# Altium schematic symbol library Memory_RAM.SchLib: 96 symbols (part 1 of 2)
Pins are listed as number, name and electrical type; pins without a type are passive.

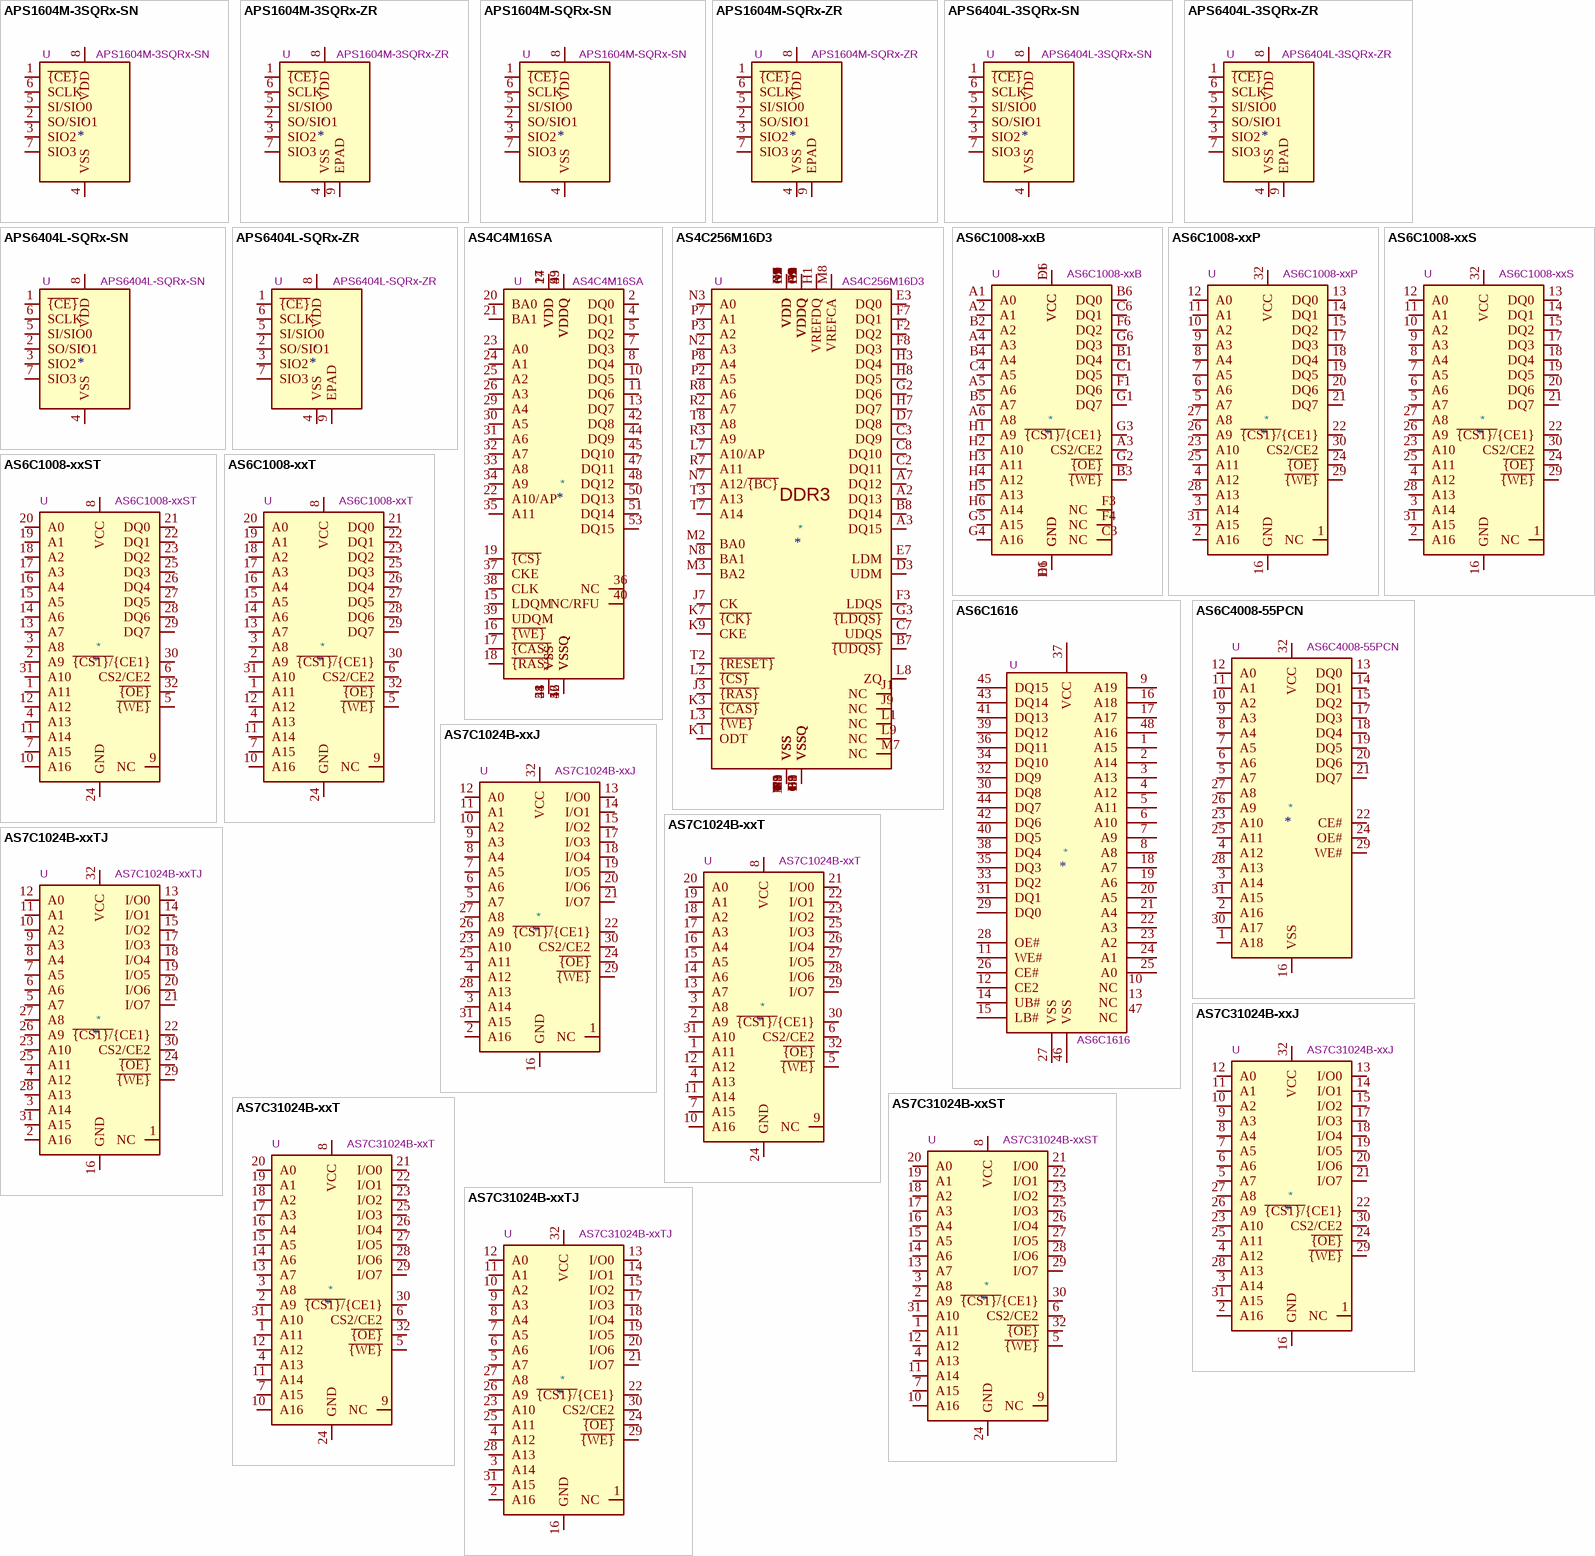
[diagram p0: symbols APS1604M-3SQRx-SN to AS7C31024B-xxTJ]

## APS1604M-3SQRx-SN
designator *  value APS1604M-3SQRx-SN  Reference: U
16 Mbit / 2M x 8-bits serial pseudo SRAM MEMORY, up to 133MHz, 2.7-3.6V supply, SOIC-8 (SOP-8); ki_keywords: qspi qpi spi psram; ki_fp_filters: *SOIC*3.9x4.9mm*P1.27mm*; Footprint: Package_SO:SOIC-8_3.9x4.9mm_P1.27mm; Datasheet: https://www.mouser.com/datasheet/2/1127/APM_PSRAM_QSPI_APS1604M_3SQR_v2_7_PKG-1954896.pdf; Description_: 16 Mbit / 2M x 8-bits serial pseudo SRAM MEMORY, up to 133MHz, 2.7-3.6V supply, SOIC-8 (SOP-8)
pins: 1 ~{{CE}}, 2 SO/SIO1, 3 SIO2, 4 VSS, 5 SI/SIO0, 6 SCLK, 7 SIO3, 8 VDD

## APS1604M-3SQRx-ZR
designator *  value APS1604M-3SQRx-ZR  Reference: U
16 Mbit / 2M x 8-bits serial pseudo SRAM MEMORY, up to 133MHz, 2.7-3.6V supply, USON-8 (XSON-8); ki_keywords: qspi qpi spi psram; ki_fp_filters: *SON*3x2mm*P0.5mm*EP0.2x1.6mm*; Footprint: Package_SON:Winbond_USON-8-1EP_3x2mm_P0.5mm_EP0.2x1.6mm; Datasheet: https://www.mouser.com/datasheet/2/1127/APM_PSRAM_QSPI_APS1604M_3SQR_v2_7_PKG-1954896.pdf; Description_: 16 Mbit / 2M x 8-bits serial pseudo SRAM MEMORY, up to 133MHz, 2.7-3.6V supply, USON-8 (XSON-8)
pins: 1 ~{{CE}}, 2 SO/SIO1, 3 SIO2, 4 VSS, 5 SI/SIO0, 6 SCLK, 7 SIO3, 8 VDD, 9 EPAD

## APS1604M-SQRx-SN
designator *  value APS1604M-SQRx-SN  Reference: U
16 Mbit / 2M x 8-bits serial pseudo SRAM MEMORY, up to 144MHz, 1.62-1.98V supply, SOIC-8 (SOP-8); ki_keywords: qspi qpi spi psram; ki_fp_filters: *SOIC*3.9x4.9mm*P1.27mm*; Footprint: Package_SO:SOIC-8_3.9x4.9mm_P1.27mm; Datasheet: https://www.mouser.com/datasheet/2/1127/APM_PSRAM_QSPI_APS1604M_SQR_v2_5_PKG-1954861.pdf; Description_: 16 Mbit / 2M x 8-bits serial pseudo SRAM MEMORY, up to 144MHz, 1.62-1.98V supply, SOIC-8 (SOP-8)
pins: 1 ~{{CE}}, 2 SO/SIO1, 3 SIO2, 4 VSS, 5 SI/SIO0, 6 SCLK, 7 SIO3, 8 VDD

## APS1604M-SQRx-ZR
designator *  value APS1604M-SQRx-ZR  Reference: U
16 Mbit / 2M x 8-bits serial pseudo SRAM MEMORY, up to 144MHz, 1.62-1.98V supply, USON-8 (XSON-8); ki_keywords: qspi qpi spi psram; ki_fp_filters: *SON*3x2mm*P0.5mm*EP0.2x1.6mm*; Footprint: Package_SON:Winbond_USON-8-1EP_3x2mm_P0.5mm_EP0.2x1.6mm; Datasheet: https://www.mouser.com/datasheet/2/1127/APM_PSRAM_QSPI_APS1604M_SQR_v2_5_PKG-1954861.pdf; Description_: 16 Mbit / 2M x 8-bits serial pseudo SRAM MEMORY, up to 144MHz, 1.62-1.98V supply, USON-8 (XSON-8)
pins: 1 ~{{CE}}, 2 SO/SIO1, 3 SIO2, 4 VSS, 5 SI/SIO0, 6 SCLK, 7 SIO3, 8 VDD, 9 EPAD

## APS6404L-3SQRx-SN
designator *  value APS6404L-3SQRx-SN  Reference: U
64 Mbit / 8M x 8-bits serial pseudo SRAM MEMORY, up to 133MHz, 2.7-3.6V supply, SOIC-8 (SOP-8); ki_keywords: qspi qpi spi psram; ki_fp_filters: *SOIC*3.9x4.9mm*P1.27mm*; Footprint: Package_SO:SOIC-8_3.9x4.9mm_P1.27mm; Datasheet: https://www.mouser.com/datasheet/2/1127/APM_PSRAM_QSPI_APS6404L_3SQR_v2_3_PKG-1954826.pdf; Description_: 64 Mbit / 8M x 8-bits serial pseudo SRAM MEMORY, up to 133MHz, 2.7-3.6V supply, SOIC-8 (SOP-8)
pins: 1 ~{{CE}}, 2 SO/SIO1, 3 SIO2, 4 VSS, 5 SI/SIO0, 6 SCLK, 7 SIO3, 8 VDD

## APS6404L-3SQRx-ZR
designator *  value APS6404L-3SQRx-ZR  Reference: U
64 Mbit / 8M x 8-bits serial pseudo SRAM MEMORY, up to 133MHz, 2.7-3.6V supply, USON-8 (XSON-8); ki_keywords: qspi qpi spi psram; ki_fp_filters: *SON*3x2mm*P0.5mm*EP0.2x1.6mm*; Footprint: Package_SON:Winbond_USON-8-1EP_3x2mm_P0.5mm_EP0.2x1.6mm; Datasheet: https://www.mouser.com/datasheet/2/1127/APM_PSRAM_QSPI_APS6404L_3SQR_v2_3_PKG-1954826.pdf; Description_: 64 Mbit / 8M x 8-bits serial pseudo SRAM MEMORY, up to 133MHz, 2.7-3.6V supply, USON-8 (XSON-8)
pins: 1 ~{{CE}}, 2 SO/SIO1, 3 SIO2, 4 VSS, 5 SI/SIO0, 6 SCLK, 7 SIO3, 8 VDD, 9 EPAD

## APS6404L-SQRx-SN
designator *  value APS6404L-SQRx-SN  Reference: U
64 Mbit / 8M x 8-bits serial pseudo SRAM MEMORY, up to 144MHz, 1.62-1.98V supply, SOIC-8 (SOP-8); ki_keywords: qspi qpi spi psram; ki_fp_filters: *SOIC*3.9x4.9mm*P1.27mm*; Footprint: Package_SO:SOIC-8_3.9x4.9mm_P1.27mm; Datasheet: https://www.apmemory.com/en/downloadFiles/0324112120mm608993; Description_: 64 Mbit / 8M x 8-bits serial pseudo SRAM MEMORY, up to 144MHz, 1.62-1.98V supply, SOIC-8 (SOP-8)
pins: 1 ~{{CE}}, 2 SO/SIO1, 3 SIO2, 4 VSS, 5 SI/SIO0, 6 SCLK, 7 SIO3, 8 VDD

## APS6404L-SQRx-ZR
designator *  value APS6404L-SQRx-ZR  Reference: U
64 Mbit / 8M x 8-bits serial pseudo SRAM MEMORY, up to 144MHz, 1.62-1.98V supply, USON-8 (XSON-8); ki_keywords: qspi qpi spi psram; ki_fp_filters: *SON*3x2mm*P0.5mm*EP0.2x1.6mm*; Footprint: Package_SON:Winbond_USON-8-1EP_3x2mm_P0.5mm_EP0.2x1.6mm; Datasheet: https://www.apmemory.com/en/downloadFiles/0324112120mm608993; Description_: 64 Mbit / 8M x 8-bits serial pseudo SRAM MEMORY, up to 144MHz, 1.62-1.98V supply, USON-8 (XSON-8)
pins: 1 ~{{CE}}, 2 SO/SIO1, 3 SIO2, 4 VSS, 5 SI/SIO0, 6 SCLK, 7 SIO3, 8 VDD, 9 EPAD

## AS4C4M16SA
designator *  value AS4C4M16SA  Reference: U
64M – (4M x 16 bit) Synchronous DRAM (SDRAM), TSOP-II-54; ki_keywords: SDRAM Synchronous DRAM PC166 PC143 64Mb 16Mbx4 MEMORY; ki_fp_filters: TSOP?II*22.2x10.16mm*P0.8mm*; Footprint: Package_SO:TSOP-II-54_22.2x10.16mm_P0.8mm; Datasheet: https://www.alliancememory.com/wp-content/uploads/pdf/dram/64M-AS4C4M16SA-CI_v3.0_March%202015.pdf; Description_: 64M – (4M x 16 bit) Synchronous DRAM (SDRAM), TSOP-II-54
pins: 1 VDD, 2 DQ0, 3 VDDQ, 4 DQ1, 5 DQ2, 6 VSSQ, 7 DQ3, 8 DQ4, 9 VDDQ, 10 DQ5, 11 DQ6, 12 VSSQ, 13 DQ7, 14 VDD, 15 LDQM, 16 ~{{WE}}, 17 ~{{CAS}}, 18 ~{{RAS}}, 19 ~{{CS}}, 20 BA0, 21 BA1, 22 A10/AP, 23 A0, 24 A1, 25 A2, 26 A3, 27 VDD, 28 VSS, 29 A4, 30 A5, 31 A6, 32 A7, 33 A8, 34 A9, 35 A11, 36 NC, 37 CKE, 38 CLK, 39 UDQM, 40 NC/RFU, 41 VSS, 42 DQ8, 43 VDDQ, 44 DQ9, 45 DQ10, 46 VSSQ, 47 DQ11, 48 DQ12, 49 VDDQ, 50 DQ13, 51 DQ14, 52 VSSQ, 53 DQ15, 54 VSS

## AS4C256M16D3
designator *  value AS4C256M16D3  Reference: U
4Gb (256Mx16 bit) Double Data Rate 3 Synchronous DRAM; ki_keywords: DDR3 DRAM MEMORY; ki_fp_filters: BGA*9.0x13.0mm*P0.8mm*; Footprint: Package_BGA:BGA-96_9.0x13.0mm_Layout2x3x16_P0.8mm; Datasheet: https://www.alliancememory.com/wp-content/uploads/pdf/ddr3/4GB-AS4C256M16D3.pdf; Description_: 4Gb (256Mx16 bit) Double Data Rate 3 Synchronous DRAM
pins: A1 VDDQ, A2 DQ13, A3 DQ15, A7 DQ12, A8 VDDQ, A9 VSS, B1 VSSQ, B2 VDD, B3 VSS, B7 ~{{UDQS}}, B8 DQ14, B9 VSSQ, C1 VDDQ, C2 DQ11, C3 DQ9, C7 UDQS, C8 DQ10, C9 VDDQ, D1 VSSQ, D2 VDDQ, D3 UDM, D7 DQ8, D8 VSSQ, D9 VDD, E1 VSS, E2 VSSQ, E3 DQ0, E7 LDM, E8 VSSQ, E9 VDDQ, F1 VDDQ, F2 DQ2, F3 LDQS, F7 DQ1, F8 DQ3, F9 VSSQ, G1 VSSQ, G2 DQ6, G3 ~{{LDQS}}, G7 VDD, G8 VSS, G9 VSSQ, H1 VREFDQ, H2 VDDQ, H3 DQ4, H7 DQ7, H8 DQ5, H9 VDDQ, J1 NC, J2 VSS, J3 ~{{RAS}}, J7 CK, J8 VSS, J9 NC, K1 ODT, K2 VDD, K3 ~{{CAS}}, K7 ~{{CK}}, K8 VDD, K9 CKE, L1 NC, L2 ~{{CS}}, L3 ~{{WE}}, L7 A10/AP, L8 ZQ, L9 NC, M1 VSS, M2 BA0, M3 BA2, M7 NC, M8 VREFCA, M9 VSS, N1 VDD, N2 A3, N3 A0, N7 A12/~{{BC}}, N8 BA1, N9 VDD, P1 VSS, P2 A5, P3 A2, P7 A1, P8 A4, P9 VSS, R1 VDD, R2 A7, R3 A9, R7 A11, R8 A6, R9 VDD, T1 VSS, T2 ~{{RESET}}, T3 A13, T7 A14, T8 A8, T9 VSS
text: DDR3

## AS6C1008-xxB
designator *  value AS6C1008-xxB  Reference: U
1-Mbit (128K X 8-bit) Low Power CMOS SRAM, single 2.7V ~ 5.5V power supply, 55ns, TFBGA-36; ki_keywords: Static MEMORY 1Mbit; ki_fp_filters: *TFBGA*6*8mm*Layout6x8*P0.75mm*; Footprint: Package_BGA:Alliance_TFBGA-36_6x8mm_Layout6x8_P0.75mm; Datasheet: https://www.alliancememory.com/wp-content/uploads/pdf/AS6C1008_Mar_2023V1.2.pdf; Description_: 1-Mbit (128K X 8-bit) Low Power CMOS SRAM, single 2.7V ~ 5.5V power supply, 55ns, TFBGA-36
pins: A1 A0, A2 A1, A3 CS2/CE2, A4 A3, A5 A6, A6 A8, B1 DQ4, B2 A2, B3 ~{{WE}}, B4 A4, B5 A7, B6 DQ0, C1 DQ5, C3 NC, C4 A5, C6 DQ1, D1 GND, D6 VCC, E1 VCC, E6 GND, F1 DQ6, F3 NC, F4 NC, F6 DQ2, G1 DQ7, G2 ~{{OE}}, G3 ~{{CS1}/}{CE1}, G4 A16, G5 A15, G6 DQ3, H1 A9, H2 A10, H3 A11, H4 A12, H5 A13, H6 A14

## AS6C1008-xxP
designator *  value AS6C1008-xxP  Reference: U
1-Mbit (128K X 8-bit) Low Power CMOS SRAM, single 2.7V ~ 5.5V power supply, 55ns, DIP-32; ki_keywords: Static MEMORY 1Mbit; ki_fp_filters: *DIP*W15.24mm*; Footprint: Package_DIP:DIP-32_W15.24mm; Datasheet: https://www.alliancememory.com/wp-content/uploads/pdf/AS6C1008_Mar_2023V1.2.pdf; Description_: 1-Mbit (128K X 8-bit) Low Power CMOS SRAM, single 2.7V ~ 5.5V power supply, 55ns, DIP-32
pins: 1 NC, 2 A16, 3 A14, 4 A12, 5 A7, 6 A6, 7 A5, 8 A4, 9 A3, 10 A2, 11 A1, 12 A0, 13 DQ0, 14 DQ1, 15 DQ2, 16 GND, 17 DQ3, 18 DQ4, 19 DQ5, 20 DQ6, 21 DQ7, 22 ~{{CS1}/}{CE1}, 23 A10, 24 ~{{OE}}, 25 A11, 26 A9, 27 A8, 28 A13, 29 ~{{WE}}, 30 CS2/CE2, 31 A15, 32 VCC

## AS6C1008-xxS
designator *  value AS6C1008-xxS  Reference: U
1-Mbit (128K X 8-bit) Low Power CMOS SRAM, single 2.7V ~ 5.5V power supply, 55ns, SOP-32; ki_keywords: Static MEMORY 1Mbit; ki_fp_filters: *SOP*11.3*20.*P1.27mm*; Footprint: Package_SO:SOP-32_11.305x20.495mm_P1.27mm; Datasheet: https://www.alliancememory.com/wp-content/uploads/pdf/AS6C1008_Mar_2023V1.2.pdf; Description_: 1-Mbit (128K X 8-bit) Low Power CMOS SRAM, single 2.7V ~ 5.5V power supply, 55ns, SOP-32
pins: 1 NC, 2 A16, 3 A14, 4 A12, 5 A7, 6 A6, 7 A5, 8 A4, 9 A3, 10 A2, 11 A1, 12 A0, 13 DQ0, 14 DQ1, 15 DQ2, 16 GND, 17 DQ3, 18 DQ4, 19 DQ5, 20 DQ6, 21 DQ7, 22 ~{{CS1}/}{CE1}, 23 A10, 24 ~{{OE}}, 25 A11, 26 A9, 27 A8, 28 A13, 29 ~{{WE}}, 30 CS2/CE2, 31 A15, 32 VCC

## AS6C1008-xxST
designator *  value AS6C1008-xxST  Reference: U
1-Mbit (128K X 8-bit) Low Power CMOS SRAM, single 2.7V ~ 5.5V power supply, 55ns, TSOP-I-32; ki_keywords: Static MEMORY 1Mbit; ki_fp_filters: *TSOP?I*11.8*8*P0.5mm*; Footprint: Package_SO:TSOP-I-32_11.8x8mm_P0.5mm; Datasheet: https://www.alliancememory.com/wp-content/uploads/pdf/AS6C1008_Mar_2023V1.2.pdf; Description_: 1-Mbit (128K X 8-bit) Low Power CMOS SRAM, single 2.7V ~ 5.5V power supply, 55ns, TSOP-I-32
pins: 1 A11, 2 A9, 3 A8, 4 A13, 5 ~{{WE}}, 6 CS2/CE2, 7 A15, 8 VCC, 9 NC, 10 A16, 11 A14, 12 A12, 13 A7, 14 A6, 15 A5, 16 A4, 17 A3, 18 A2, 19 A1, 20 A0, 21 DQ0, 22 DQ1, 23 DQ2, 24 GND, 25 DQ3, 26 DQ4, 27 DQ5, 28 DQ6, 29 DQ7, 30 ~{{CS1}/}{CE1}, 31 A10, 32 ~{{OE}}

## AS6C1008-xxT
designator *  value AS6C1008-xxT  Reference: U
1-Mbit (128K X 8-bit) Low Power CMOS SRAM, single 2.7V ~ 5.5V power supply, 55ns, TSOP-I-32; ki_keywords: Static MEMORY 1Mbit; ki_fp_filters: *TSOP?I*18.4*8*P0.5mm*; Footprint: Package_SO:TSOP-I-32_18.4x8mm_P0.5mm; Datasheet: https://www.alliancememory.com/wp-content/uploads/pdf/AS6C1008_Mar_2023V1.2.pdf; Description_: 1-Mbit (128K X 8-bit) Low Power CMOS SRAM, single 2.7V ~ 5.5V power supply, 55ns, TSOP-I-32
pins: 1 A11, 2 A9, 3 A8, 4 A13, 5 ~{{WE}}, 6 CS2/CE2, 7 A15, 8 VCC, 9 NC, 10 A16, 11 A14, 12 A12, 13 A7, 14 A6, 15 A5, 16 A4, 17 A3, 18 A2, 19 A1, 20 A0, 21 DQ0, 22 DQ1, 23 DQ2, 24 GND, 25 DQ3, 26 DQ4, 27 DQ5, 28 DQ6, 29 DQ7, 30 ~{{CS1}/}{CE1}, 31 A10, 32 ~{{OE}}

## AS6C1616
designator *  value AS6C1616  Reference: U
1024k x 16 bit low power CMOS SRAM; ki_keywords: memory SRAM; ki_fp_filters: TSOP?I*18.4x12mm*P0.5mm*; Footprint: Package_SO:TSOP-I-48_18.4x12mm_P0.5mm; Datasheet: https://www.alliancememory.com/wp-content/uploads/pdf/AS6C1616-TSOPI.pdf; Description_: 1024k x 16 bit low power CMOS SRAM
pins: 1 A15, 2 A14, 3 A13, 4 A12, 5 A11, 6 A10, 7 A9, 8 A8, 9 A19, 10 NC, 11 WE#, 12 CE2, 13 NC, 14 UB#, 15 LB#, 16 A18, 17 A17, 18 A7, 19 A6, 20 A5, 21 A4, 22 A3, 23 A2, 24 A1, 25 A0, 26 CE#, 27 VSS, 28 OE#, 29 DQ0, 30 DQ8, 31 DQ1, 32 DQ9, 33 DQ2, 34 DQ10, 35 DQ3, 36 DQ11, 37 VCC, 38 DQ4, 39 DQ12, 40 DQ5, 41 DQ13, 42 DQ6, 43 DQ14, 44 DQ7, 45 DQ15, 46 VSS, 47 NC, 48 A16

## AS6C4008-55PCN
designator *  value AS6C4008-55PCN  Reference: U
512K x 8 Low Power CMOS RAM, DIP-32; ki_keywords: RAM SRAM CMOS MEMORY; ki_fp_filters: DIP*W15.24mm*; Footprint: Package_DIP:DIP-32_W15.24mm; Datasheet: https://www.alliancememory.com/wp-content/uploads/pdf/AS6C4008.pdf; Description_: 512K x 8 Low Power CMOS RAM, DIP-32
pins: 1 A18, 2 A16, 3 A14, 4 A12, 5 A7, 6 A6, 7 A5, 8 A4, 9 A3, 10 A2, 11 A1, 12 A0, 13 DQ0, 14 DQ1, 15 DQ2, 16 VSS, 17 DQ3, 18 DQ4, 19 DQ5, 20 DQ6, 21 DQ7, 22 CE#, 23 A10, 24 OE#, 25 A11, 26 A9, 27 A8, 28 A13, 29 WE#, 30 A17, 31 A15, 32 VCC

## AS7C1024B-xxJ
designator *  value AS7C1024B-xxJ  Reference: U
5V 1-Mbit (128K x 8-bit) FAST Asynchronous SRAM, 10/12/15/20ns, SOJ-32 (400 mil); ki_keywords: CMOS MEMORY Static 1Mbit; ki_fp_filters: *SOJ*10.1*20.*P1.27mm*; Footprint: Package_SO:SOJ-32_10.16x20.955mm_P1.27mm; Datasheet: https://www.alliancememory.com/wp-content/uploads/pdf/sram/fa/AS7C1024B_March2022_v3.0.pdf; Description_: 5V 1-Mbit (128K x 8-bit) FAST Asynchronous SRAM, 10/12/15/20ns, SOJ-32 (400 mil)
pins: 1 NC, 2 A16, 3 A14, 4 A12, 5 A7, 6 A6, 7 A5, 8 A4, 9 A3, 10 A2, 11 A1, 12 A0, 13 I/O0, 14 I/O1, 15 I/O2, 16 GND, 17 I/O3, 18 I/O4, 19 I/O5, 20 I/O6, 21 I/O7, 22 ~{{CS1}/}{CE1}, 23 A10, 24 ~{{OE}}, 25 A11, 26 A9, 27 A8, 28 A13, 29 ~{{WE}}, 30 CS2/CE2, 31 A15, 32 VCC

## AS7C1024B-xxT
designator *  value AS7C1024B-xxT  Reference: U
5V 1-Mbit (128K x 8-bit) FAST Asynchronous SRAM, 10/12/15/20ns, TSOP-I-32; ki_keywords: CMOS MEMORY Static 1Mbit; ki_fp_filters: *TSOP?I*18.4*8*P0.5mm*; Footprint: Package_SO:TSOP-I-32_18.4x8mm_P0.5mm; Datasheet: https://www.alliancememory.com/wp-content/uploads/pdf/sram/fa/AS7C1024B_March2022_v3.0.pdf; Description_: 5V 1-Mbit (128K x 8-bit) FAST Asynchronous SRAM, 10/12/15/20ns, TSOP-I-32
pins: 1 A11, 2 A9, 3 A8, 4 A13, 5 ~{{WE}}, 6 CS2/CE2, 7 A15, 8 VCC, 9 NC, 10 A16, 11 A14, 12 A12, 13 A7, 14 A6, 15 A5, 16 A4, 17 A3, 18 A2, 19 A1, 20 A0, 21 I/O0, 22 I/O1, 23 I/O2, 24 GND, 25 I/O3, 26 I/O4, 27 I/O5, 28 I/O6, 29 I/O7, 30 ~{{CS1}/}{CE1}, 31 A10, 32 ~{{OE}}

## AS7C1024B-xxTJ
designator *  value AS7C1024B-xxTJ  Reference: U
5V 1-Mbit (128K x 8-bit) FAST Asynchronous SRAM, 10/12/15/20ns, SOJ-32 (300 mil); ki_keywords: CMOS MEMORY Static 1Mbit; ki_fp_filters: *SOJ*7.6*20.*P1.27mm*; Footprint: Package_SO:SOJ-32_7.62x20.955mm_P1.27mm; Datasheet: https://www.alliancememory.com/wp-content/uploads/pdf/sram/fa/AS7C1024B_March2022_v3.0.pdf; Description_: 5V 1-Mbit (128K x 8-bit) FAST Asynchronous SRAM, 10/12/15/20ns, SOJ-32 (300 mil)
pins: 1 NC, 2 A16, 3 A14, 4 A12, 5 A7, 6 A6, 7 A5, 8 A4, 9 A3, 10 A2, 11 A1, 12 A0, 13 I/O0, 14 I/O1, 15 I/O2, 16 GND, 17 I/O3, 18 I/O4, 19 I/O5, 20 I/O6, 21 I/O7, 22 ~{{CS1}/}{CE1}, 23 A10, 24 ~{{OE}}, 25 A11, 26 A9, 27 A8, 28 A13, 29 ~{{WE}}, 30 CS2/CE2, 31 A15, 32 VCC

## AS7C31024B-xxJ
designator *  value AS7C31024B-xxJ  Reference: U
3.3V 1-Mbit (128K X 8-bit) CMOS SRAM, 10/12/15/20ns, SOJ-32 (400 mil); ki_keywords: Static MEMORY 1Mbit; ki_fp_filters: *SOJ*10.1*20.*P1.27mm*; Footprint: Package_SO:SOJ-32_10.16x20.955mm_P1.27mm; Datasheet: https://www.alliancememory.com/wp-content/uploads/pdf/sram/fa/AS7C31024B.V1.2.pdf; Description_: 3.3V 1-Mbit (128K X 8-bit) CMOS SRAM, 10/12/15/20ns, SOJ-32 (400 mil)
pins: 1 NC, 2 A16, 3 A14, 4 A12, 5 A7, 6 A6, 7 A5, 8 A4, 9 A3, 10 A2, 11 A1, 12 A0, 13 I/O0, 14 I/O1, 15 I/O2, 16 GND, 17 I/O3, 18 I/O4, 19 I/O5, 20 I/O6, 21 I/O7, 22 ~{{CS1}/}{CE1}, 23 A10, 24 ~{{OE}}, 25 A11, 26 A9, 27 A8, 28 A13, 29 ~{{WE}}, 30 CS2/CE2, 31 A15, 32 VCC

## AS7C31024B-xxST
designator *  value AS7C31024B-xxST  Reference: U
3.3V 1-Mbit (128K X 8-bit) CMOS SRAM, 10/12/15/20ns, TSOP-I-32; ki_keywords: MEMORY Static 1Mbit; ki_fp_filters: *TSOP?I*11.8*8*P0.5mm*; Footprint: Package_SO:TSOP-I-32_11.8x8mm_P0.5mm; Datasheet: https://www.alliancememory.com/wp-content/uploads/pdf/sram/fa/AS7C31024B.V1.2.pdf; Description_: 3.3V 1-Mbit (128K X 8-bit) CMOS SRAM, 10/12/15/20ns, TSOP-I-32
pins: 1 A11, 2 A9, 3 A8, 4 A13, 5 ~{{WE}}, 6 CS2/CE2, 7 A15, 8 VCC, 9 NC, 10 A16, 11 A14, 12 A12, 13 A7, 14 A6, 15 A5, 16 A4, 17 A3, 18 A2, 19 A1, 20 A0, 21 I/O0, 22 I/O1, 23 I/O2, 24 GND, 25 I/O3, 26 I/O4, 27 I/O5, 28 I/O6, 29 I/O7, 30 ~{{CS1}/}{CE1}, 31 A10, 32 ~{{OE}}

## AS7C31024B-xxT
designator *  value AS7C31024B-xxT  Reference: U
3.3V 1-Mbit (128K X 8-bit) CMOS SRAM, 10/12/15/20ns, TSOP-I-32; ki_keywords: MEMORY Static 1Mbit; ki_fp_filters: *TSOP?I*18.4*8*P0.5mm*; Footprint: Package_SO:TSOP-I-32_18.4x8mm_P0.5mm; Datasheet: https://www.alliancememory.com/wp-content/uploads/pdf/sram/fa/AS7C31024B.V1.2.pdf; Description_: 3.3V 1-Mbit (128K X 8-bit) CMOS SRAM, 10/12/15/20ns, TSOP-I-32
pins: 1 A11, 2 A9, 3 A8, 4 A13, 5 ~{{WE}}, 6 CS2/CE2, 7 A15, 8 VCC, 9 NC, 10 A16, 11 A14, 12 A12, 13 A7, 14 A6, 15 A5, 16 A4, 17 A3, 18 A2, 19 A1, 20 A0, 21 I/O0, 22 I/O1, 23 I/O2, 24 GND, 25 I/O3, 26 I/O4, 27 I/O5, 28 I/O6, 29 I/O7, 30 ~{{CS1}/}{CE1}, 31 A10, 32 ~{{OE}}

## AS7C31024B-xxTJ
designator *  value AS7C31024B-xxTJ  Reference: U
3.3V 1-Mbit (128K X 8-bit) CMOS SRAM, 10/12/15/20ns, SOJ-32 (300 mil); ki_keywords: Static MEMORY 1Mbit; ki_fp_filters: *SOJ*7.6*20.*P1.27mm*; Footprint: Package_SO:SOJ-32_7.62x20.955mm_P1.27mm; Datasheet: https://www.alliancememory.com/wp-content/uploads/pdf/sram/fa/AS7C31024B.V1.2.pdf; Description_: 3.3V 1-Mbit (128K X 8-bit) CMOS SRAM, 10/12/15/20ns, SOJ-32 (300 mil)
pins: 1 NC, 2 A16, 3 A14, 4 A12, 5 A7, 6 A6, 7 A5, 8 A4, 9 A3, 10 A2, 11 A1, 12 A0, 13 I/O0, 14 I/O1, 15 I/O2, 16 GND, 17 I/O3, 18 I/O4, 19 I/O5, 20 I/O6, 21 I/O7, 22 ~{{CS1}/}{CE1}, 23 A10, 24 ~{{OE}}, 25 A11, 26 A9, 27 A8, 28 A13, 29 ~{{WE}}, 30 CS2/CE2, 31 A15, 32 VCC

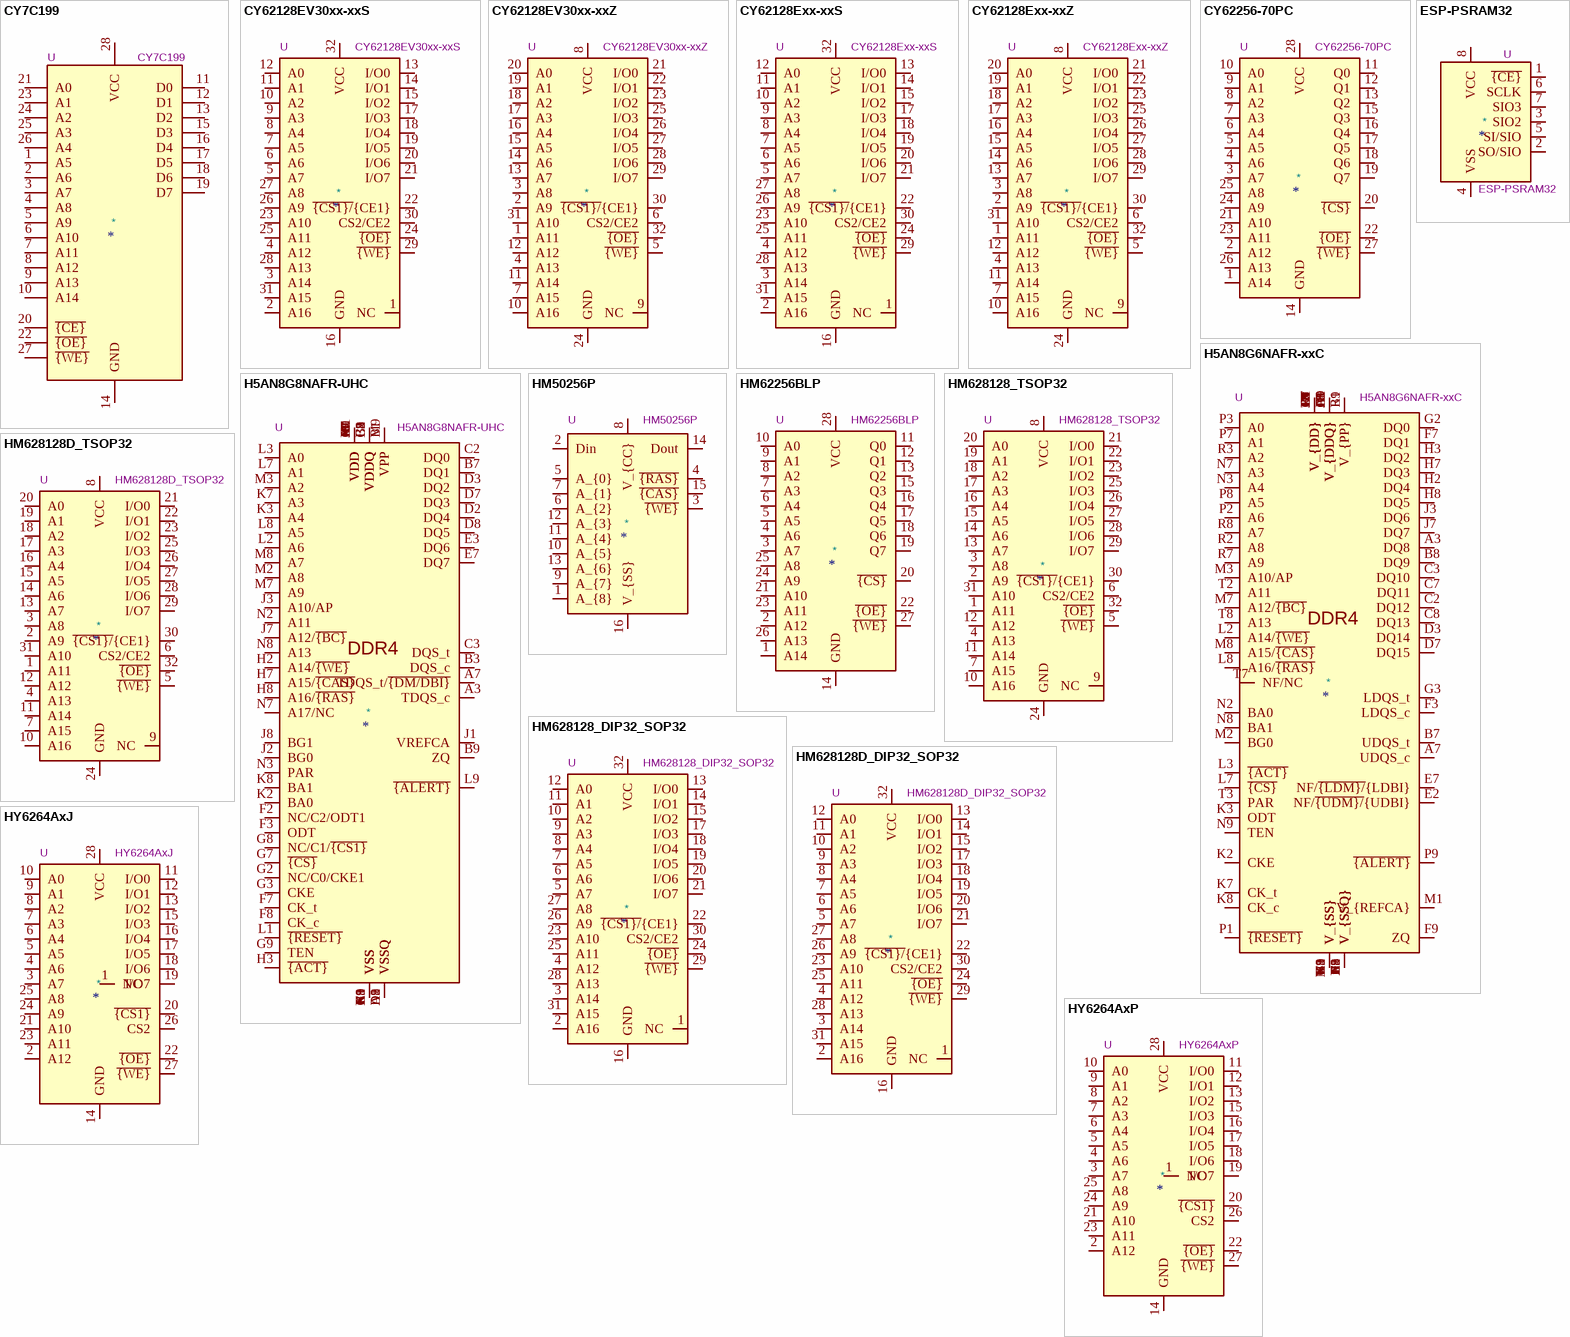
[diagram p1: symbols CY7C199 to HY6264AxP]

## CY7C199
designator *  value CY7C199  Reference: U
pins: 1 A5, 2 A6, 3 A7, 4 A8, 5 A9, 6 A10, 7 A11, 8 A12, 9 A13, 10 A14, 11 D0, 12 D1, 13 D2, 14 GND, 15 D3, 16 D4, 17 D5, 18 D6, 19 D7, 20 ~{{CE}}, 21 A0, 22 ~{{OE}}, 23 A1, 24 A2, 25 A3, 26 A4, 27 ~{{WE}}, 28 VCC

## CY62128EV30xx-xxS
designator *  value CY62128EV30xx-xxS  Reference: U
1-Mbit (128K x 8-bit) Static RAM, VCC = 2.2..3.6V, 45ns, SOIC-32 (SOP-32); ki_keywords: CMOS MEMORY SRAM 1Mbit; ki_fp_filters: *SOP*11.*20.*P1.27mm*; Footprint: Package_SO:SOP-32_11.305x20.495mm_P1.27mm; Datasheet: https://www.infineon.com/dgdl/Infineon-CY62128EV30_MoBL_1_Mbit_(128K_X_8)_Static_RAM-DataSheet-v17_00-EN.pdf?fileId=8ac78c8c7d0d8da4017d0ebe867f322f; Description_: 1-Mbit (128K x 8-bit) Static RAM, VCC = 2.2..3.6V, 45ns, SOIC-32 (SOP-32)
pins: 1 NC, 2 A16, 3 A14, 4 A12, 5 A7, 6 A6, 7 A5, 8 A4, 9 A3, 10 A2, 11 A1, 12 A0, 13 I/O0, 14 I/O1, 15 I/O2, 16 GND, 17 I/O3, 18 I/O4, 19 I/O5, 20 I/O6, 21 I/O7, 22 ~{{CS1}/}{CE1}, 23 A10, 24 ~{{OE}}, 25 A11, 26 A9, 27 A8, 28 A13, 29 ~{{WE}}, 30 CS2/CE2, 31 A15, 32 VCC

## CY62128EV30xx-xxZ
designator *  value CY62128EV30xx-xxZ  Reference: U
1-Mbit (128K x 8-bit) Static RAM, VCC = 2.2..3.6V, 45ns, TSOP-I-32; ki_keywords: CMOS MEMORY SRAM 1Mbit; ki_fp_filters: *TSOP?I*18.4*8*P0.5mm*; Footprint: Package_SO:TSOP-I-32_18.4x8mm_P0.5mm; Datasheet: https://www.infineon.com/dgdl/Infineon-CY62128EV30_MoBL_1_Mbit_(128K_X_8)_Static_RAM-DataSheet-v17_00-EN.pdf?fileId=8ac78c8c7d0d8da4017d0ebe867f322f; Description_: 1-Mbit (128K x 8-bit) Static RAM, VCC = 2.2..3.6V, 45ns, TSOP-I-32
pins: 1 A11, 2 A9, 3 A8, 4 A13, 5 ~{{WE}}, 6 CS2/CE2, 7 A15, 8 VCC, 9 NC, 10 A16, 11 A14, 12 A12, 13 A7, 14 A6, 15 A5, 16 A4, 17 A3, 18 A2, 19 A1, 20 A0, 21 I/O0, 22 I/O1, 23 I/O2, 24 GND, 25 I/O3, 26 I/O4, 27 I/O5, 28 I/O6, 29 I/O7, 30 ~{{CS1}/}{CE1}, 31 A10, 32 ~{{OE}}

## CY62128Exx-xxS
designator *  value CY62128Exx-xxS  Reference: U
1-Mbit (128K x 8-bit) Static RAM, VCC = 4.5..5.5V, 45/55ns, SOIC-32 (SOP-32); ki_keywords: CMOS MEMORY SRAM 1Mbit; ki_fp_filters: *SOP*11.*20.*P1.27mm*; Footprint: Package_SO:SOP-32_11.305x20.495mm_P1.27mm; Datasheet: https://www.infineon.com/dgdl/Infineon-CY62128E_MoBL_1-Mbit_(128_K_8)_Static_RAM-DataSheet-v17_00-EN.pdf?fileId=8ac78c8c7d0d8da4017d0ebe7dc7321d; Description_: 1-Mbit (128K x 8-bit) Static RAM, VCC = 4.5..5.5V, 45/55ns, SOIC-32 (SOP-32)
pins: 1 NC, 2 A16, 3 A14, 4 A12, 5 A7, 6 A6, 7 A5, 8 A4, 9 A3, 10 A2, 11 A1, 12 A0, 13 I/O0, 14 I/O1, 15 I/O2, 16 GND, 17 I/O3, 18 I/O4, 19 I/O5, 20 I/O6, 21 I/O7, 22 ~{{CS1}/}{CE1}, 23 A10, 24 ~{{OE}}, 25 A11, 26 A9, 27 A8, 28 A13, 29 ~{{WE}}, 30 CS2/CE2, 31 A15, 32 VCC

## CY62128Exx-xxZ
designator *  value CY62128Exx-xxZ  Reference: U
1-Mbit (128K x 8-bit) Static RAM, VCC = 4.5..5.5V, 45/55ns, TSOP-I-32; ki_keywords: CMOS MEMORY SRAM 1Mbit; ki_fp_filters: *TSOP?I*18.4*8*P0.5mm*; Footprint: Package_SO:TSOP-I-32_18.4x8mm_P0.5mm; Datasheet: https://www.infineon.com/dgdl/Infineon-CY62128E_MoBL_1-Mbit_(128_K_8)_Static_RAM-DataSheet-v17_00-EN.pdf?fileId=8ac78c8c7d0d8da4017d0ebe7dc7321d; Description_: 1-Mbit (128K x 8-bit) Static RAM, VCC = 4.5..5.5V, 45/55ns, TSOP-I-32
pins: 1 A11, 2 A9, 3 A8, 4 A13, 5 ~{{WE}}, 6 CS2/CE2, 7 A15, 8 VCC, 9 NC, 10 A16, 11 A14, 12 A12, 13 A7, 14 A6, 15 A5, 16 A4, 17 A3, 18 A2, 19 A1, 20 A0, 21 I/O0, 22 I/O1, 23 I/O2, 24 GND, 25 I/O3, 26 I/O4, 27 I/O5, 28 I/O6, 29 I/O7, 30 ~{{CS1}/}{CE1}, 31 A10, 32 ~{{OE}}

## CY62256-70PC
designator *  value CY62256-70PC  Reference: U
256K (32K x 8) Static RAM, 70ns, DIP-28; ki_keywords: RAM SRAM CMOS MEMORY; ki_fp_filters: DIP*W15.24mm*; Footprint: Package_DIP:DIP-28_W15.24mm; Datasheet: https://ecee.colorado.edu/~mcclurel/Cypress_SRAM_CY62256.pdf; Description_: 256K (32K x 8) Static RAM, 70ns, DIP-28
pins: 1 A14, 2 A12, 3 A7, 4 A6, 5 A5, 6 A4, 7 A3, 8 A2, 9 A1, 10 A0, 11 Q0, 12 Q1, 13 Q2, 14 GND, 15 Q3, 16 Q4, 17 Q5, 18 Q6, 19 Q7, 20 ~{{CS}}, 21 A10, 22 ~{{OE}}, 23 A11, 24 A9, 25 A8, 26 A13, 27 ~{{WE}}, 28 VCC

## ESP-PSRAM32
designator *  value ESP-PSRAM32  Reference: U
32 Mbit serial pseudo SRAM device organized as 4Mx8 bits, 1.8 VCC, SOIC8 (SOP8); ki_keywords: 32 Mbit serial pseudo SRAM MEMORY; ki_fp_filters: SOIC*3.9x4.9mm?P1.27mm*; Footprint: Package_SO:SOIC-8_3.9x4.9mm_P1.27mm; Datasheet: https://www.espressif.com/sites/default/files/documentation/esp-psram32_datasheet_en.pdf; Description_: 32 Mbit serial pseudo SRAM device organized as 4Mx8 bits, 1.8 VCC, SOIC8 (SOP8)
pins: 1 ~{{CE}}, 2 SO/SIO, 3 SIO2, 4 VSS, 5 SI/SIO, 6 SCLK, 7 SIO3, 8 VCC

## H5AN8G6NAFR-xxC
designator *  value H5AN8G6NAFR-xxC  Reference: U
512M x 16-bit (8 Gbit) CMOS Double Data Rate IV Synchronous RAM, FBGA-96; ki_keywords: DDR4 DRAM SDRAM x16 MEMORY; ki_fp_filters: *FBGA*7.5x13mm*Layout9x16*P0.8mm*; Footprint: Package_BGA:FBGA-96_7.5x13mm_Layout9x16_P0.8mm; Datasheet: https://www.lcsc.com/datasheet/lcsc_datasheet_2003241832_SK-HYNIX-H5AN8G6NAFR-UHC_C499916.pdf; Description_: 512M x 16-bit (8 Gbit) CMOS Double Data Rate IV Synchronous RAM, FBGA-96
pins: A1 V_{DDQ}, A2 V_{SSQ}, A3 DQ8, A7 UDQS_c, A8 V_{SSQ}, A9 V_{DDQ}, B1 V_{PP}, B2 V_{SS}, B3 V_{DD}, B7 UDQS_t, B8 DQ9, B9 V_{DD}, C1 V_{DDQ}, C2 DQ12, C3 DQ10, C7 DQ11, C8 DQ13, C9 V_{SSQ}, D1 V_{DD}, D2 V_{SSQ}, D3 DQ14, D7 DQ15, D8 V_{SSQ}, D9 V_{DDQ}, E1 V_{SS}, E2 NF/~{{UDM}/}{UDBI}, E3 V_{SSQ}, E7 NF/~{{LDM}/}{LDBI}, E8 V_{SSQ}, E9 V_{SS}, F1 V_{SSQ}, F2 V_{DDQ}, F3 LDQS_c, F7 DQ1, F8 V_{DDQ}, F9 ZQ, G1 V_{DDQ}, G2 DQ0, G3 LDQS_t, G7 V_{DD}, G8 V_{SS}, G9 V_{DDQ}, H1 V_{SSQ}, H2 DQ4, H3 DQ2, H7 DQ3, H8 DQ5, H9 V_{SSQ}, J1 V_{DD}, J2 V_{DDQ}, J3 DQ6, J7 DQ7, J8 V_{DDQ}, J9 V_{DD}, K1 V_{SS}, K2 CKE, K3 ODT, K7 CK_t, K8 CK_c, K9 V_{SS}, L1 V_{DD}, L2 A14/~{{WE}}, L3 ~{{ACT}}, L7 ~{{CS}}, L8 A16/~{{RAS}}, L9 V_{DD}, M1 V_{REFCA}, M2 BG0, M3 A10/AP, M7 A12/~{{BC}}, M8 A15/~{{CAS}}, M9 V_{SS}, N1 V_{SS}, N2 BA0, N3 A4, N7 A3, N8 BA1, N9 TEN, P1 ~{{RESET}}, P2 A6, P3 A0, P7 A1, P8 A5, P9 ~{{ALERT}}, R1 V_{DD}, R2 A8, R3 A2, R7 A9, R8 A7, R9 V_{PP}, T1 V_{SS}, T2 A11, T3 PAR, T7 NF/NC, T8 A13, T9 V_{DD}
text: DDR4

## H5AN8G8NAFR-UHC
designator *  value H5AN8G8NAFR-UHC  Reference: U
8Gb CMOS Double Data Rate IV Synchronous RAM; ki_keywords: DDR4 DRAM MEMORY; ki_fp_filters: FBGA*7.5x11mm*P0.8mm*; Footprint: Package_BGA:FBGA-78_7.5x11mm_Layout2x3x13_P0.8mm; Datasheet: https://www.skhynix.com/product/filedata/fileDownload.do?seq=7687; Description_: 8Gb CMOS Double Data Rate IV Synchronous RAM
pins: A1 VDD, A2 VSSQ, A3 TDQS_c, A7 TDQS_t/~{{DM/DBI}}, A8 VSSQ, A9 VSS, B1 VPP, B2 VDDQ, B3 DQS_c, B7 DQ1, B8 VDDQ, B9 ZQ, C1 VDDQ, C2 DQ0, C3 DQS_t, C7 VDD, C8 VSS, C9 VDDQ, D1 VSSQ, D2 DQ4, D3 DQ2, D7 DQ3, D8 DQ5, D9 VSSQ, E1 VSS, E2 VDDQ, E3 DQ6, E7 DQ7, E8 VDDQ, E9 VSS, F1 VDD, F2 NC/C2/ODT1, F3 ODT, F7 CK_t, F8 CK_c, F9 VDD, G1 VSS, G2 NC/C0/CKE1, G3 CKE, G7 ~{{CS}}, G8 NC/C1/~{{CS1}}, G9 TEN, H1 VDD, H2 A14/~{{WE}}, H3 ~{{ACT}}, H7 A15/~{{CAS}}, H8 A16/~{{RAS}}, H9 VSS, J1 VREFCA, J2 BG0, J3 A10/AP, J7 A12/~{{BC}}, J8 BG1, J9 VDD, K1 VSS, K2 BA0, K3 A4, K7 A3, K8 BA1, K9 VSS, L1 ~{{RESET}}, L2 A6, L3 A0, L7 A1, L8 A5, L9 ~{{ALERT}}, M1 VDD, M2 A8, M3 A2, M7 A9, M8 A7, M9 VPP, N1 VSS, N2 A11, N3 PAR, N7 A17/NC, N8 A13, N9 VDD
text: DDR4

## HM50256P
designator *  value HM50256P  Reference: U
262144 x 1 bit Dynamic RAM, 120/150/200ns access time, single 5V ±10% power supply, TTL compatible inputs, DIP-16 (DP-16A package); ki_keywords: Hitachi DRAM NMOS 256Kbit 41256 MEMORY Obsolete; ki_fp_filters: DIP*7.62mm*; Footprint: Package_DIP:DIP-16_W7.62mm; Datasheet: https://minuszerodegrees.net/memory/41256/datasheet_HM50256.pdf; Description_: 262144 x 1 bit Dynamic RAM, 120/150/200ns access time, single 5V ±10% power supply, TTL compatible inputs, DIP-16 (DP-16A package)
pins: 1 A_{8}, 2 Din, 3 ~{{WE}}, 4 ~{{RAS}}, 5 A_{0}, 6 A_{2}, 7 A_{1}, 8 V_{CC}, 9 A_{7}, 10 A_{5}, 11 A_{4}, 12 A_{3}, 13 A_{6}, 14 Dout, 15 ~{{CAS}}, 16 V_{SS}

## HM62256BLP
designator *  value HM62256BLP  Reference: U
32,768-word × 8-bit High Speed CMOS Static RAM, 70ns, DIP-28; ki_keywords: RAM SRAM CMOS MEMORY; ki_fp_filters: DIP*W15.24mm*; Footprint: Package_DIP:DIP-28_W15.24mm; Datasheet: https://web.mit.edu/6.115/www/document/62256.pdf; Description_: 32,768-word × 8-bit High Speed CMOS Static RAM, 70ns, DIP-28
pins: 1 A14, 2 A12, 3 A7, 4 A6, 5 A5, 6 A4, 7 A3, 8 A2, 9 A1, 10 A0, 11 Q0, 12 Q1, 13 Q2, 14 GND, 15 Q3, 16 Q4, 17 Q5, 18 Q6, 19 Q7, 20 ~{{CS}}, 21 A10, 22 ~{{OE}}, 23 A11, 24 A9, 25 A8, 26 A13, 27 ~{{WE}}, 28 VCC

## HM628128_DIP32_SOP32
designator *  value HM628128_DIP32_SOP32  Reference: U
128K-word x 8-bit High-Speed CMOS Static RAM, 70/85/100/120ns, 5V supply, DIP-32/SOP-32; ki_keywords: SRAM MEMORY 1Mbit Obsolete; ki_fp_filters: *DIP*W15.24mm* *SOP*11.*20.*P1.27mm*; Datasheet: https://www.silicon-ark.co.uk/datasheets/hm628128-datasheet-hitachi.pdf; Description_: 128K-word x 8-bit High-Speed CMOS Static RAM, 70/85/100/120ns, 5V supply, DIP-32/SOP-32
pins: 1 NC, 2 A16, 3 A14, 4 A12, 5 A7, 6 A6, 7 A5, 8 A4, 9 A3, 10 A2, 11 A1, 12 A0, 13 I/O0, 14 I/O1, 15 I/O2, 16 GND, 17 I/O3, 18 I/O4, 19 I/O5, 20 I/O6, 21 I/O7, 22 ~{{CS1}/}{CE1}, 23 A10, 24 ~{{OE}}, 25 A11, 26 A9, 27 A8, 28 A13, 29 ~{{WE}}, 30 CS2/CE2, 31 A15, 32 VCC

## HM628128_TSOP32
designator *  value HM628128_TSOP32  Reference: U
128K-word x 8-bit High-Speed CMOS Static RAM, 70/85/100/120ns, 5V supply, TSOP-I-32; ki_keywords: SRAM MEMORY 1Mbit Obsolete; ki_fp_filters: *TSOP?I*11.8*8*P0.5mm* *TSOP?I*18.4*8*P0.5mm*; Datasheet: https://www.silicon-ark.co.uk/datasheets/hm628128-datasheet-hitachi.pdf; Description_: 128K-word x 8-bit High-Speed CMOS Static RAM, 70/85/100/120ns, 5V supply, TSOP-I-32
pins: 1 A11, 2 A9, 3 A8, 4 A13, 5 ~{{WE}}, 6 CS2/CE2, 7 A15, 8 VCC, 9 NC, 10 A16, 11 A14, 12 A12, 13 A7, 14 A6, 15 A5, 16 A4, 17 A3, 18 A2, 19 A1, 20 A0, 21 I/O0, 22 I/O1, 23 I/O2, 24 GND, 25 I/O3, 26 I/O4, 27 I/O5, 28 I/O6, 29 I/O7, 30 ~{{CS1}/}{CE1}, 31 A10, 32 ~{{OE}}

## HM628128D_DIP32_SOP32
designator *  value HM628128D_DIP32_SOP32  Reference: U
128K-word x 8-bit High-Speed CMOS Static RAM, 55/70ns, 5V supply, DIP-32/SOP-32; ki_keywords: SRAM MEMORY 1Mbit Obsolete; ki_fp_filters: *DIP*W15.24mm* *SOP*11.*20.*P1.27mm*; Datasheet: http://www.futurlec.com/Datasheet/Memory/628128.pdf; Description_: 128K-word x 8-bit High-Speed CMOS Static RAM, 55/70ns, 5V supply, DIP-32/SOP-32
pins: 1 NC, 2 A16, 3 A14, 4 A12, 5 A7, 6 A6, 7 A5, 8 A4, 9 A3, 10 A2, 11 A1, 12 A0, 13 I/O0, 14 I/O1, 15 I/O2, 16 GND, 17 I/O3, 18 I/O4, 19 I/O5, 20 I/O6, 21 I/O7, 22 ~{{CS1}/}{CE1}, 23 A10, 24 ~{{OE}}, 25 A11, 26 A9, 27 A8, 28 A13, 29 ~{{WE}}, 30 CS2/CE2, 31 A15, 32 VCC

## HM628128D_TSOP32
designator *  value HM628128D_TSOP32  Reference: U
128K-word x 8-bit High-Speed CMOS Static RAM, 55/70ns, 5V supply, TSOP-I-32; ki_keywords: SRAM MEMORY 1Mbit Obsolete; ki_fp_filters: *TSOP?I*11.8*8*P0.5mm* *TSOP?I*18.4*8*P0.5mm*; Datasheet: http://www.futurlec.com/Datasheet/Memory/628128.pdf; Description_: 128K-word x 8-bit High-Speed CMOS Static RAM, 55/70ns, 5V supply, TSOP-I-32
pins: 1 A11, 2 A9, 3 A8, 4 A13, 5 ~{{WE}}, 6 CS2/CE2, 7 A15, 8 VCC, 9 NC, 10 A16, 11 A14, 12 A12, 13 A7, 14 A6, 15 A5, 16 A4, 17 A3, 18 A2, 19 A1, 20 A0, 21 I/O0, 22 I/O1, 23 I/O2, 24 GND, 25 I/O3, 26 I/O4, 27 I/O5, 28 I/O6, 29 I/O7, 30 ~{{CS1}/}{CE1}, 31 A10, 32 ~{{OE}}

## HY6264AxJ
designator *  value HY6264AxJ  Reference: U
Not in Production, 8Kx8 bit Static RAM, 70/85/100/120/150ns, DIP-28; ki_keywords: HYUNDAI SRAM CMOS MEMORY; ki_fp_filters: *SOP*8.4x18.16mm*P1.27*; Footprint: Package_SO:SOP-28_8.4x18.16mm_P1.27mm; Datasheet: https://www.farnell.com/datasheets/2159.pdf; Description_: Not in Production, 8Kx8 bit Static RAM, 70/85/100/120/150ns, DIP-28
pins: 1 NC, 2 A12, 3 A7, 4 A6, 5 A5, 6 A4, 7 A3, 8 A2, 9 A1, 10 A0, 11 I/O0, 12 I/O1, 13 I/O2, 14 GND, 15 I/O3, 16 I/O4, 17 I/O5, 18 I/O6, 19 I/O7, 20 ~{{CS1}}, 21 A10, 22 ~{{OE}}, 23 A11, 24 A9, 25 A8, 26 CS2, 27 ~{{WE}}, 28 VCC

## HY6264AxP
designator *  value HY6264AxP  Reference: U
Not in Production, 8Kx8 bit Static RAM, 70/85/100/120/150ns, DIP-28; ki_keywords: HYUNDAI SRAM CMOS MEMORY; ki_fp_filters: DIP*W15.24mm*; Footprint: Package_DIP:DIP-28_W15.24mm; Datasheet: https://www.farnell.com/datasheets/2159.pdf; Description_: Not in Production, 8Kx8 bit Static RAM, 70/85/100/120/150ns, DIP-28
pins: 1 NC, 2 A12, 3 A7, 4 A6, 5 A5, 6 A4, 7 A3, 8 A2, 9 A1, 10 A0, 11 I/O0, 12 I/O1, 13 I/O2, 14 GND, 15 I/O3, 16 I/O4, 17 I/O5, 18 I/O6, 19 I/O7, 20 ~{{CS1}}, 21 A10, 22 ~{{OE}}, 23 A11, 24 A9, 25 A8, 26 CS2, 27 ~{{WE}}, 28 VCC

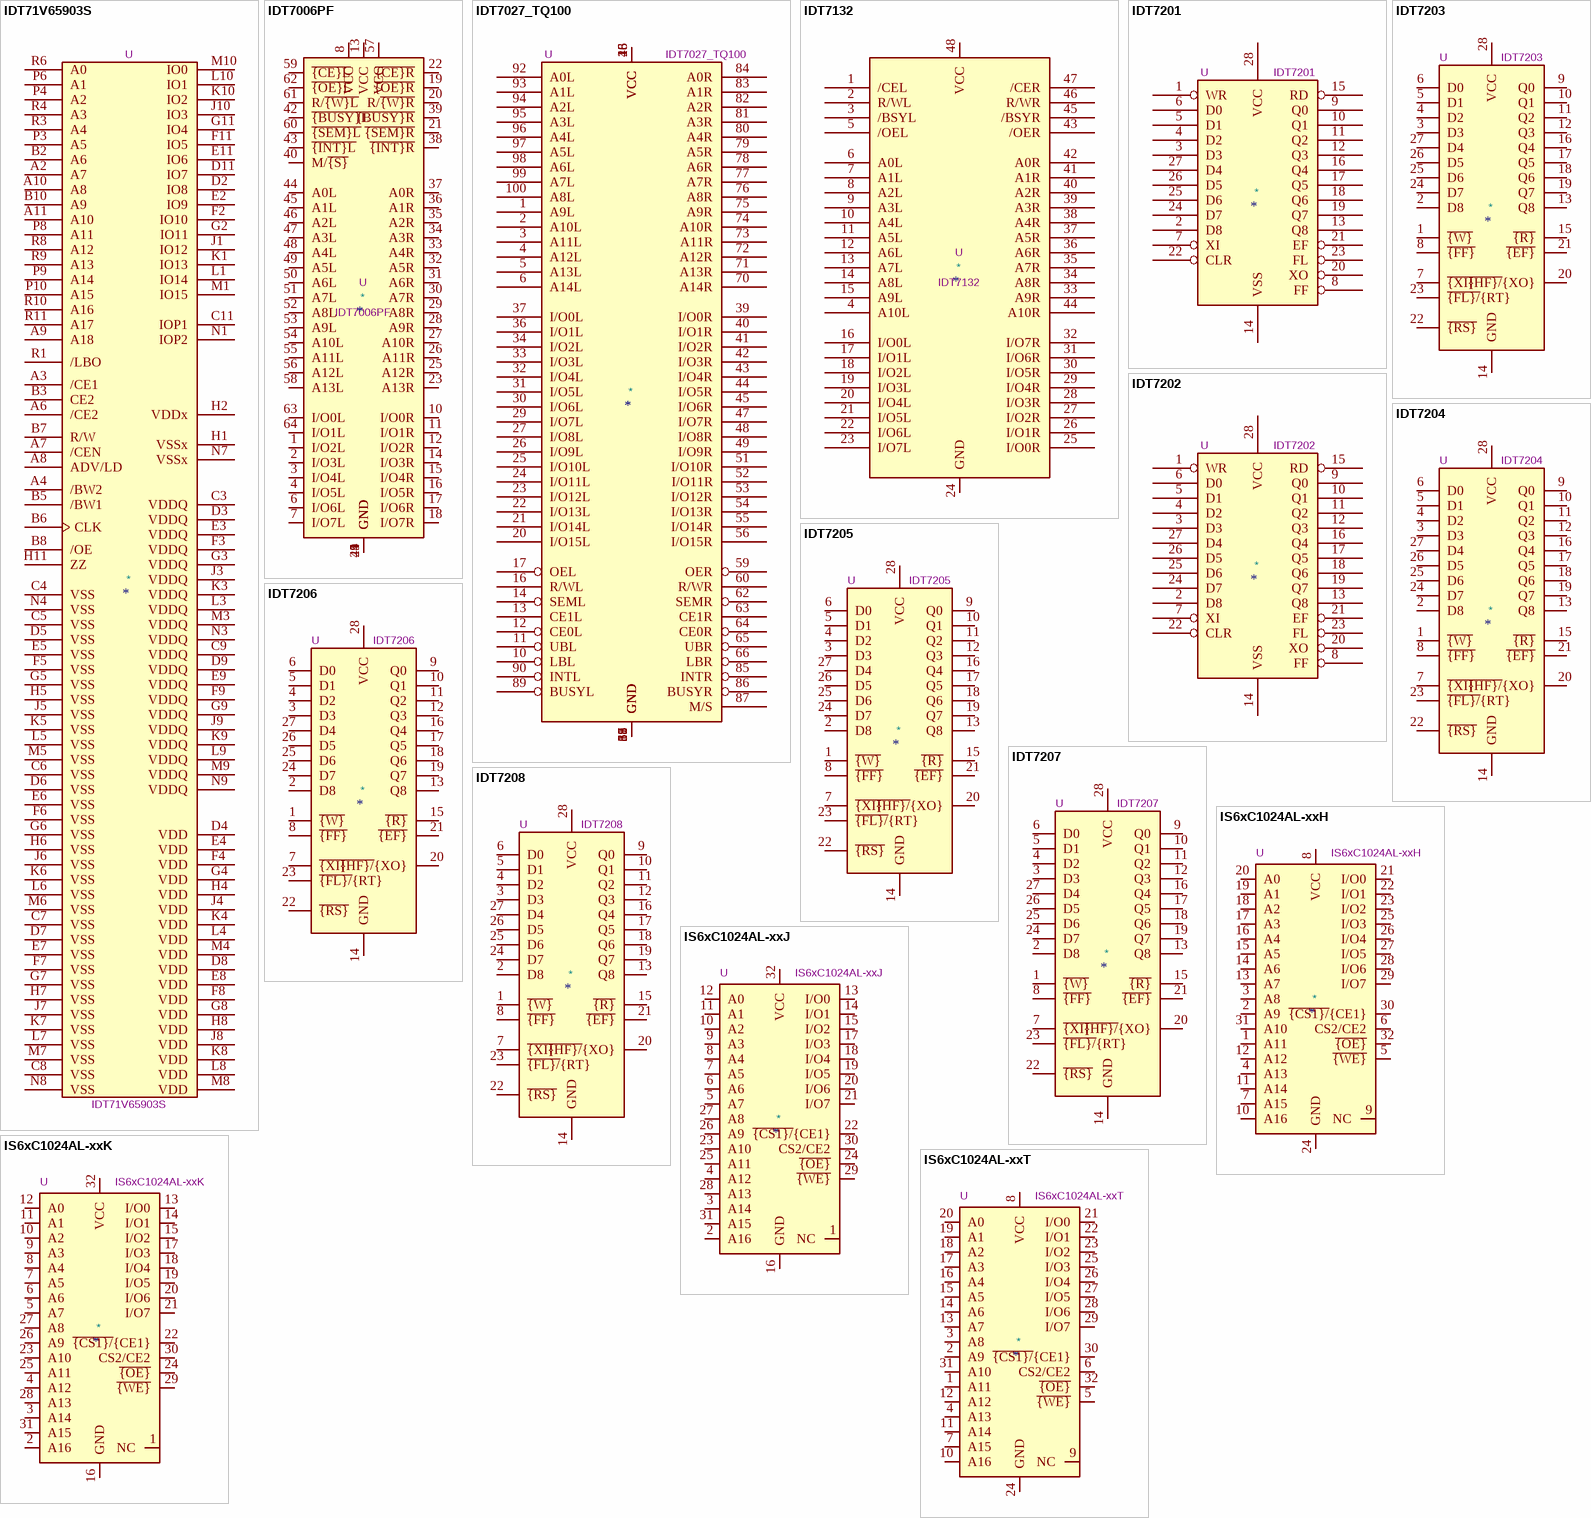
[diagram p2: symbols IDT71V65903S to IS6xC1024AL-xxT]

## IDT71V65903S
designator *  value IDT71V65903S  Reference: U
165 pins BGA 3.3V high-speed 9 Megabit synchronous SRAMs 512K x 18 (or  256K x 36); Description_: 165 pins BGA 3.3V high-speed 9 Megabit synchronous SRAMs 512K x 18 (or  256K x 36)
pins: A2 A7, A3 /CE1, A4 /BW2, A6 /CE2, A7 /CEN, A8 ADV/LD, A9 A18, A10 A8, A11 A10, B2 A6, B3 CE2, B5 /BW1, B6 CLK, B7 R/W, B8 /OE, B10 A9, C3 VDDQ, C4 VSS, C5 VSS, C6 VSS, C7 VSS, C8 VSS, C9 VDDQ, C11 IOP1, D2 IO8, D3 VDDQ, D4 VDD, D5 VSS, D6 VSS, D7 VSS, D8 VDD, D9 VDDQ, D11 IO7, E2 IO9, E3 VDDQ, E4 VDD, E5 VSS, E6 VSS, E7 VSS, E8 VDD, E9 VDDQ, E11 IO6, F2 IO10, F3 VDDQ, F4 VDD, F5 VSS, F6 VSS, F7 VSS, F8 VDD, F9 VDDQ, F11 IO5, G2 IO11, G3 VDDQ, G4 VDD, G5 VSS, G6 VSS, G7 VSS, G8 VDD, G9 VDDQ, G11 IO4, H1 VSSx, H2 VDDx, H4 VDD, H5 VSS, H6 VSS, H7 VSS, H8 VDD, H11 ZZ, J1 IO12, J3 VDDQ, J4 VDD, J5 VSS, J6 VSS, J7 VSS, J8 VDD, J9 VDDQ, J10 IO3, K1 IO13, K3 VDDQ, K4 VDD, K5 VSS, K6 VSS, K7 VSS, K8 VDD, K9 VDDQ, K10 IO2, L1 IO14, L3 VDDQ, L4 VDD, L5 VSS, L6 VSS, L7 VSS, L8 VDD, L9 VDDQ, L10 IO1, M1 IO15, M3 VDDQ, M4 VDD, M5 VSS, M6 VSS, M7 VSS, M8 VDD, M9 VDDQ, M10 IO0, N1 IOP2, N3 VDDQ, N4 VSS, N7 VSSx, N8 VSS, N9 VDDQ, P3 A5, P4 A2, P6 A1, P8 A11, P9 A14, P10 A15, R1 /LBO, R3 A4, R4 A3, R6 A0, R8 A12, R9 A13, R10 A16, R11 A17

## IDT7006PF
designator *  value IDT7006PF  Reference: U
16K x 8 Dual-Port SRAM, TQFP-64; ki_keywords: dual-port ram; ki_fp_filters: TQFP*14x14mm*P0.8mm*; Footprint: Package_QFP:TQFP-64_14x14mm_P0.8mm; Datasheet: https://www.idt.com/document/dst/7006-data-sheet; Description_: 16K x 8 Dual-Port SRAM, TQFP-64
pins: 1 I/O2L, 2 I/O3L, 3 I/O4L, 4 I/O5L, 5 GND, 6 I/O6L, 7 I/O7L, 8 VCC, 9 GND, 10 I/O0R, 11 I/O1R, 12 I/O2R, 13 VCC, 14 I/O3R, 15 I/O4R, 16 I/O5R, 17 I/O6R, 18 I/O7R, 19 ~{{OE}R}, 20 R/~{{W}R}, 21 ~{{SEM}R}, 22 ~{{CE}R}, 23 A13R, 24 GND, 25 A12R, 26 A11R, 27 A10R, 28 A9R, 29 A8R, 30 A7R, 31 A6R, 32 A5R, 33 A4R, 34 A3R, 35 A2R, 36 A1R, 37 A0R, 38 ~{{INT}R}, 39 ~{{BUSY}R}, 40 M/~{{S}}, 41 GND, 42 ~{{BUSY}L}, 43 ~{{INT}L}, 44 A0L, 45 A1L, 46 A2L, 47 A3L, 48 A4L, 49 A5L, 50 A6L, 51 A7L, 52 A8L, 53 A9L, 54 A10L, 55 A11L, 56 A12L, 57 VCC, 58 A13L, 59 ~{{CE}L}, 60 ~{{SEM}L}, 61 R/~{{W}L}, 62 ~{{OE}L}, 63 I/O0L, 64 I/O1L

## IDT7027_TQ100
designator *  value IDT7027_TQ100  Reference: U
pins: 1 A9L, 2 A10L, 3 A11L, 4 A12L, 5 A13L, 6 A14L, 10 LBL, 11 UBL, 12 CE0L, 13 CE1L, 14 SEML, 15 VCC, 16 R/WL, 17 OEL, 18 GND, 19 GND, 20 I/O15L, 21 I/O14L, 22 I/O13L, 23 I/O12L, 24 I/O11L, 25 I/O10L, 26 I/O9L, 27 I/O8L, 28 VCC, 29 I/O7L, 30 I/O6L, 31 I/O5L, 32 I/O4L, 33 I/O3L, 34 I/O2L, 35 GND, 36 I/O1L, 37 I/O0L, 38 GND, 39 I/O0R, 40 I/O1R, 41 I/O2R, 42 I/O3R, 43 I/O4R, 44 I/O5R, 45 I/O6R, 46 VCC, 47 I/O7R, 48 I/O8R, 49 I/O9R, 51 I/O10R, 52 I/O11R, 53 I/O12R, 54 I/O13R, 55 I/O14R, 56 I/O15R, 57 GND, 58 GND, 59 OER, 60 R/WR, 61 GND, 62 SEMR, 63 CE1R, 64 CE0R, 65 UBR, 66 LBR, 70 A14R, 71 A13R, 72 A12R, 73 A11R, 74 A10R, 75 A9R, 76 A8R, 77 A7R, 78 A6R, 79 A5R, 80 A4R, 81 A3R, 82 A2R, 83 A1R, 84 A0R, 85 INTR, 86 BUSYR, 87 M/S, 88 GND, 89 BUSYL, 90 INTL, 92 A0L, 93 A1L, 94 A2L, 95 A3L, 96 A4L, 97 A5L, 98 A6L, 99 A7L, 100 A8L

## IDT7132
designator *  value IDT7132  Reference: U
pins: 1 /CEL, 2 R/WL, 3 /BSYL, 4 A10L, 5 /OEL, 6 A0L, 7 A1L, 8 A2L, 9 A3L, 10 A4L, 11 A5L, 12 A6L, 13 A7L, 14 A8L, 15 A9L, 16 I/O0L, 17 I/O1L, 18 I/O2L, 19 I/O3L, 20 I/O4L, 21 I/O5L, 22 I/O6L, 23 I/O7L, 24 GND, 25 I/O0R, 26 I/O1R, 27 I/O2R, 28 I/O3R, 29 I/O4R, 30 I/O5R, 31 I/O6R, 32 I/O7R, 33 A9R, 34 A8R, 35 A7R, 36 A6R, 37 A5R, 38 A4R, 39 A3R, 40 A2R, 41 A1R, 42 A0R, 43 /OER, 44 A10R, 45 /BSYR, 46 R/WR, 47 /CER, 48 VCC

## IDT7201
designator *  value IDT7201  Reference: U
pins: 1 WR, 2 D8, 3 D3, 4 D2, 5 D1, 6 D0, 7 XI, 8 FF, 9 Q0, 10 Q1, 11 Q2, 12 Q3, 13 Q8, 14 VSS, 15 RD, 16 Q4, 17 Q5, 18 Q6, 19 Q7, 20 XO, 21 EF, 22 CLR, 23 FL, 24 D7, 25 D6, 26 D5, 27 D4, 28 VCC

## IDT7202
designator *  value IDT7202  Reference: U
pins: 1 WR, 2 D8, 3 D3, 4 D2, 5 D1, 6 D0, 7 XI, 8 FF, 9 Q0, 10 Q1, 11 Q2, 12 Q3, 13 Q8, 14 VSS, 15 RD, 16 Q4, 17 Q5, 18 Q6, 19 Q7, 20 XO, 21 EF, 22 CLR, 23 FL, 24 D7, 25 D6, 26 D5, 27 D4, 28 VCC

## IDT7203
designator *  value IDT7203  Reference: U
2048x9 CMOS Asynchronous FIFO, DIP-28; ki_keywords: asynchronous fifo memory; ki_fp_filters: DIP*7.62mm*; Footprint: Package_DIP:DIP-28_W7.62mm; Datasheet: http://www.idt.com/document/7203-7208-datasheet; Description_: 2048x9 CMOS Asynchronous FIFO, DIP-28
pins: 1 ~{{W}}, 2 D8, 3 D3, 4 D2, 5 D1, 6 D0, 7 ~{{XI}}, 8 ~{{FF}}, 9 Q0, 10 Q1, 11 Q2, 12 Q3, 13 Q8, 14 GND, 15 ~{{R}}, 16 Q4, 17 Q5, 18 Q6, 19 Q7, 20 ~{{HF}/}{XO}, 21 ~{{EF}}, 22 ~{{RS}}, 23 ~{{FL}/}{RT}, 24 D7, 25 D6, 26 D5, 27 D4, 28 VCC

## IDT7204
designator *  value IDT7204  Reference: U
4096x9 CMOS Asynchronous FIFO, DIP-28; ki_keywords: asynchronous fifo memory; ki_fp_filters: DIP*7.62mm*; Footprint: Package_DIP:DIP-28_W7.62mm; Datasheet: http://www.idt.com/document/7203-7208-datasheet; Description_: 4096x9 CMOS Asynchronous FIFO, DIP-28
pins: 1 ~{{W}}, 2 D8, 3 D3, 4 D2, 5 D1, 6 D0, 7 ~{{XI}}, 8 ~{{FF}}, 9 Q0, 10 Q1, 11 Q2, 12 Q3, 13 Q8, 14 GND, 15 ~{{R}}, 16 Q4, 17 Q5, 18 Q6, 19 Q7, 20 ~{{HF}/}{XO}, 21 ~{{EF}}, 22 ~{{RS}}, 23 ~{{FL}/}{RT}, 24 D7, 25 D6, 26 D5, 27 D4, 28 VCC

## IDT7205
designator *  value IDT7205  Reference: U
8192x9 CMOS Asynchronous FIFO, DIP-28; ki_keywords: asynchronous fifo memory; ki_fp_filters: DIP*7.62mm*; Footprint: Package_DIP:DIP-28_W7.62mm; Datasheet: http://www.idt.com/document/7203-7208-datasheet; Description_: 8192x9 CMOS Asynchronous FIFO, DIP-28
pins: 1 ~{{W}}, 2 D8, 3 D3, 4 D2, 5 D1, 6 D0, 7 ~{{XI}}, 8 ~{{FF}}, 9 Q0, 10 Q1, 11 Q2, 12 Q3, 13 Q8, 14 GND, 15 ~{{R}}, 16 Q4, 17 Q5, 18 Q6, 19 Q7, 20 ~{{HF}/}{XO}, 21 ~{{EF}}, 22 ~{{RS}}, 23 ~{{FL}/}{RT}, 24 D7, 25 D6, 26 D5, 27 D4, 28 VCC

## IDT7206
designator *  value IDT7206  Reference: U
16384x9 CMOS Asynchronous FIFO, DIP-28; ki_keywords: asynchronous fifo memory; ki_fp_filters: DIP*7.62mm*; Footprint: Package_DIP:DIP-28_W7.62mm; Datasheet: http://www.idt.com/document/7203-7208-datasheet; Description_: 16384x9 CMOS Asynchronous FIFO, DIP-28
pins: 1 ~{{W}}, 2 D8, 3 D3, 4 D2, 5 D1, 6 D0, 7 ~{{XI}}, 8 ~{{FF}}, 9 Q0, 10 Q1, 11 Q2, 12 Q3, 13 Q8, 14 GND, 15 ~{{R}}, 16 Q4, 17 Q5, 18 Q6, 19 Q7, 20 ~{{HF}/}{XO}, 21 ~{{EF}}, 22 ~{{RS}}, 23 ~{{FL}/}{RT}, 24 D7, 25 D6, 26 D5, 27 D4, 28 VCC

## IDT7207
designator *  value IDT7207  Reference: U
32768x9 CMOS Asynchronous FIFO, DIP-28; ki_keywords: asynchronous fifo memory; ki_fp_filters: DIP*7.62mm*; Footprint: Package_DIP:DIP-28_W7.62mm; Datasheet: http://www.idt.com/document/7203-7208-datasheet; Description_: 32768x9 CMOS Asynchronous FIFO, DIP-28
pins: 1 ~{{W}}, 2 D8, 3 D3, 4 D2, 5 D1, 6 D0, 7 ~{{XI}}, 8 ~{{FF}}, 9 Q0, 10 Q1, 11 Q2, 12 Q3, 13 Q8, 14 GND, 15 ~{{R}}, 16 Q4, 17 Q5, 18 Q6, 19 Q7, 20 ~{{HF}/}{XO}, 21 ~{{EF}}, 22 ~{{RS}}, 23 ~{{FL}/}{RT}, 24 D7, 25 D6, 26 D5, 27 D4, 28 VCC

## IDT7208
designator *  value IDT7208  Reference: U
65536x9 CMOS Asynchronous FIFO, DIP-28; ki_keywords: asynchronous fifo memory; ki_fp_filters: DIP*7.62mm*; Footprint: Package_DIP:DIP-28_W7.62mm; Datasheet: http://www.idt.com/document/7203-7208-datasheet; Description_: 65536x9 CMOS Asynchronous FIFO, DIP-28
pins: 1 ~{{W}}, 2 D8, 3 D3, 4 D2, 5 D1, 6 D0, 7 ~{{XI}}, 8 ~{{FF}}, 9 Q0, 10 Q1, 11 Q2, 12 Q3, 13 Q8, 14 GND, 15 ~{{R}}, 16 Q4, 17 Q5, 18 Q6, 19 Q7, 20 ~{{HF}/}{XO}, 21 ~{{EF}}, 22 ~{{RS}}, 23 ~{{FL}/}{RT}, 24 D7, 25 D6, 26 D5, 27 D4, 28 VCC

## IS6xC1024AL-xxH
designator *  value IS6xC1024AL-xxH  Reference: U
128K x 8-bit High-Speed CMOS Static RAM, IS61C1024AL (commercial and industrial) / IS64C1024AL (automotive), VDD = 5V ±10%, 12/15ns, TSOP-I-32; ki_keywords: SRAM MEMORY 1Mbit; ki_fp_filters: *TSOP?I*11.8*8*P0.5mm*; Footprint: Package_SO:TSOP-I-32_11.8x8mm_P0.5mm; Datasheet: https://www.issi.com/WW/pdf/61-64C1024AL.pdf; Description_: 128K x 8-bit High-Speed CMOS Static RAM, IS61C1024AL (commercial and industrial) / IS64C1024AL (automotive), VDD = 5V ±10%, 12/15ns, TSOP-I-32
pins: 1 A11, 2 A9, 3 A8, 4 A13, 5 ~{{WE}}, 6 CS2/CE2, 7 A15, 8 VCC, 9 NC, 10 A16, 11 A14, 12 A12, 13 A7, 14 A6, 15 A5, 16 A4, 17 A3, 18 A2, 19 A1, 20 A0, 21 I/O0, 22 I/O1, 23 I/O2, 24 GND, 25 I/O3, 26 I/O4, 27 I/O5, 28 I/O6, 29 I/O7, 30 ~{{CS1}/}{CE1}, 31 A10, 32 ~{{OE}}

## IS6xC1024AL-xxJ
designator *  value IS6xC1024AL-xxJ  Reference: U
128K x 8-bit High-Speed CMOS Static RAM, IS61C1024AL (commercial and industrial) / IS64C1024AL (automotive), VDD = 5V ±10%, 12/15ns, SOJ-32 (300 mil); ki_keywords: SRAM MEMORY 1Mbit Obsolete; ki_fp_filters: *SOJ*7.6*20.*P1.27mm*; Footprint: Package_SO:SOJ-32_7.62x20.955mm_P1.27mm; Datasheet: https://www.digikey.com/htmldatasheets/production/74798/0/0/1/IS6xC1024AL.pdf; Description_: 128K x 8-bit High-Speed CMOS Static RAM, IS61C1024AL (commercial and industrial) / IS64C1024AL (automotive), VDD = 5V ±10%, 12/15ns, SOJ-32 (300 mil)
pins: 1 NC, 2 A16, 3 A14, 4 A12, 5 A7, 6 A6, 7 A5, 8 A4, 9 A3, 10 A2, 11 A1, 12 A0, 13 I/O0, 14 I/O1, 15 I/O2, 16 GND, 17 I/O3, 18 I/O4, 19 I/O5, 20 I/O6, 21 I/O7, 22 ~{{CS1}/}{CE1}, 23 A10, 24 ~{{OE}}, 25 A11, 26 A9, 27 A8, 28 A13, 29 ~{{WE}}, 30 CS2/CE2, 31 A15, 32 VCC

## IS6xC1024AL-xxK
designator *  value IS6xC1024AL-xxK  Reference: U
128K x 8-bit High-Speed CMOS Static RAM, IS61C1024AL (commercial and industrial) / IS64C1024AL (automotive), VDD = 5V ±10%, 12/15ns, SOJ-32 (400 mil); ki_keywords: SRAM MEMORY 1Mbit Obsolete; ki_fp_filters: *SOJ*10.1*20.*P1.27mm*; Footprint: Package_SO:SOJ-32_10.16x20.955mm_P1.27mm; Datasheet: https://www.digikey.com/htmldatasheets/production/74798/0/0/1/IS6xC1024AL.pdf; Description_: 128K x 8-bit High-Speed CMOS Static RAM, IS61C1024AL (commercial and industrial) / IS64C1024AL (automotive), VDD = 5V ±10%, 12/15ns, SOJ-32 (400 mil)
pins: 1 NC, 2 A16, 3 A14, 4 A12, 5 A7, 6 A6, 7 A5, 8 A4, 9 A3, 10 A2, 11 A1, 12 A0, 13 I/O0, 14 I/O1, 15 I/O2, 16 GND, 17 I/O3, 18 I/O4, 19 I/O5, 20 I/O6, 21 I/O7, 22 ~{{CS1}/}{CE1}, 23 A10, 24 ~{{OE}}, 25 A11, 26 A9, 27 A8, 28 A13, 29 ~{{WE}}, 30 CS2/CE2, 31 A15, 32 VCC

## IS6xC1024AL-xxT
designator *  value IS6xC1024AL-xxT  Reference: U
128K x 8-bit High-Speed CMOS Static RAM, IS61C1024AL (commercial and industrial) / IS64C1024AL (automotive), VDD = 5V ±10%, 12/15ns, TSOP-I-32; ki_keywords: SRAM MEMORY 1Mbit; ki_fp_filters: *TSOP?I*18.4*8*P0.5mm*; Footprint: Package_SO:TSOP-I-32_18.4x8mm_P0.5mm; Datasheet: https://www.issi.com/WW/pdf/61-64C1024AL.pdf; Description_: 128K x 8-bit High-Speed CMOS Static RAM, IS61C1024AL (commercial and industrial) / IS64C1024AL (automotive), VDD = 5V ±10%, 12/15ns, TSOP-I-32
pins: 1 A11, 2 A9, 3 A8, 4 A13, 5 ~{{WE}}, 6 CS2/CE2, 7 A15, 8 VCC, 9 NC, 10 A16, 11 A14, 12 A12, 13 A7, 14 A6, 15 A5, 16 A4, 17 A3, 18 A2, 19 A1, 20 A0, 21 I/O0, 22 I/O1, 23 I/O2, 24 GND, 25 I/O3, 26 I/O4, 27 I/O5, 28 I/O6, 29 I/O7, 30 ~{{CS1}/}{CE1}, 31 A10, 32 ~{{OE}}

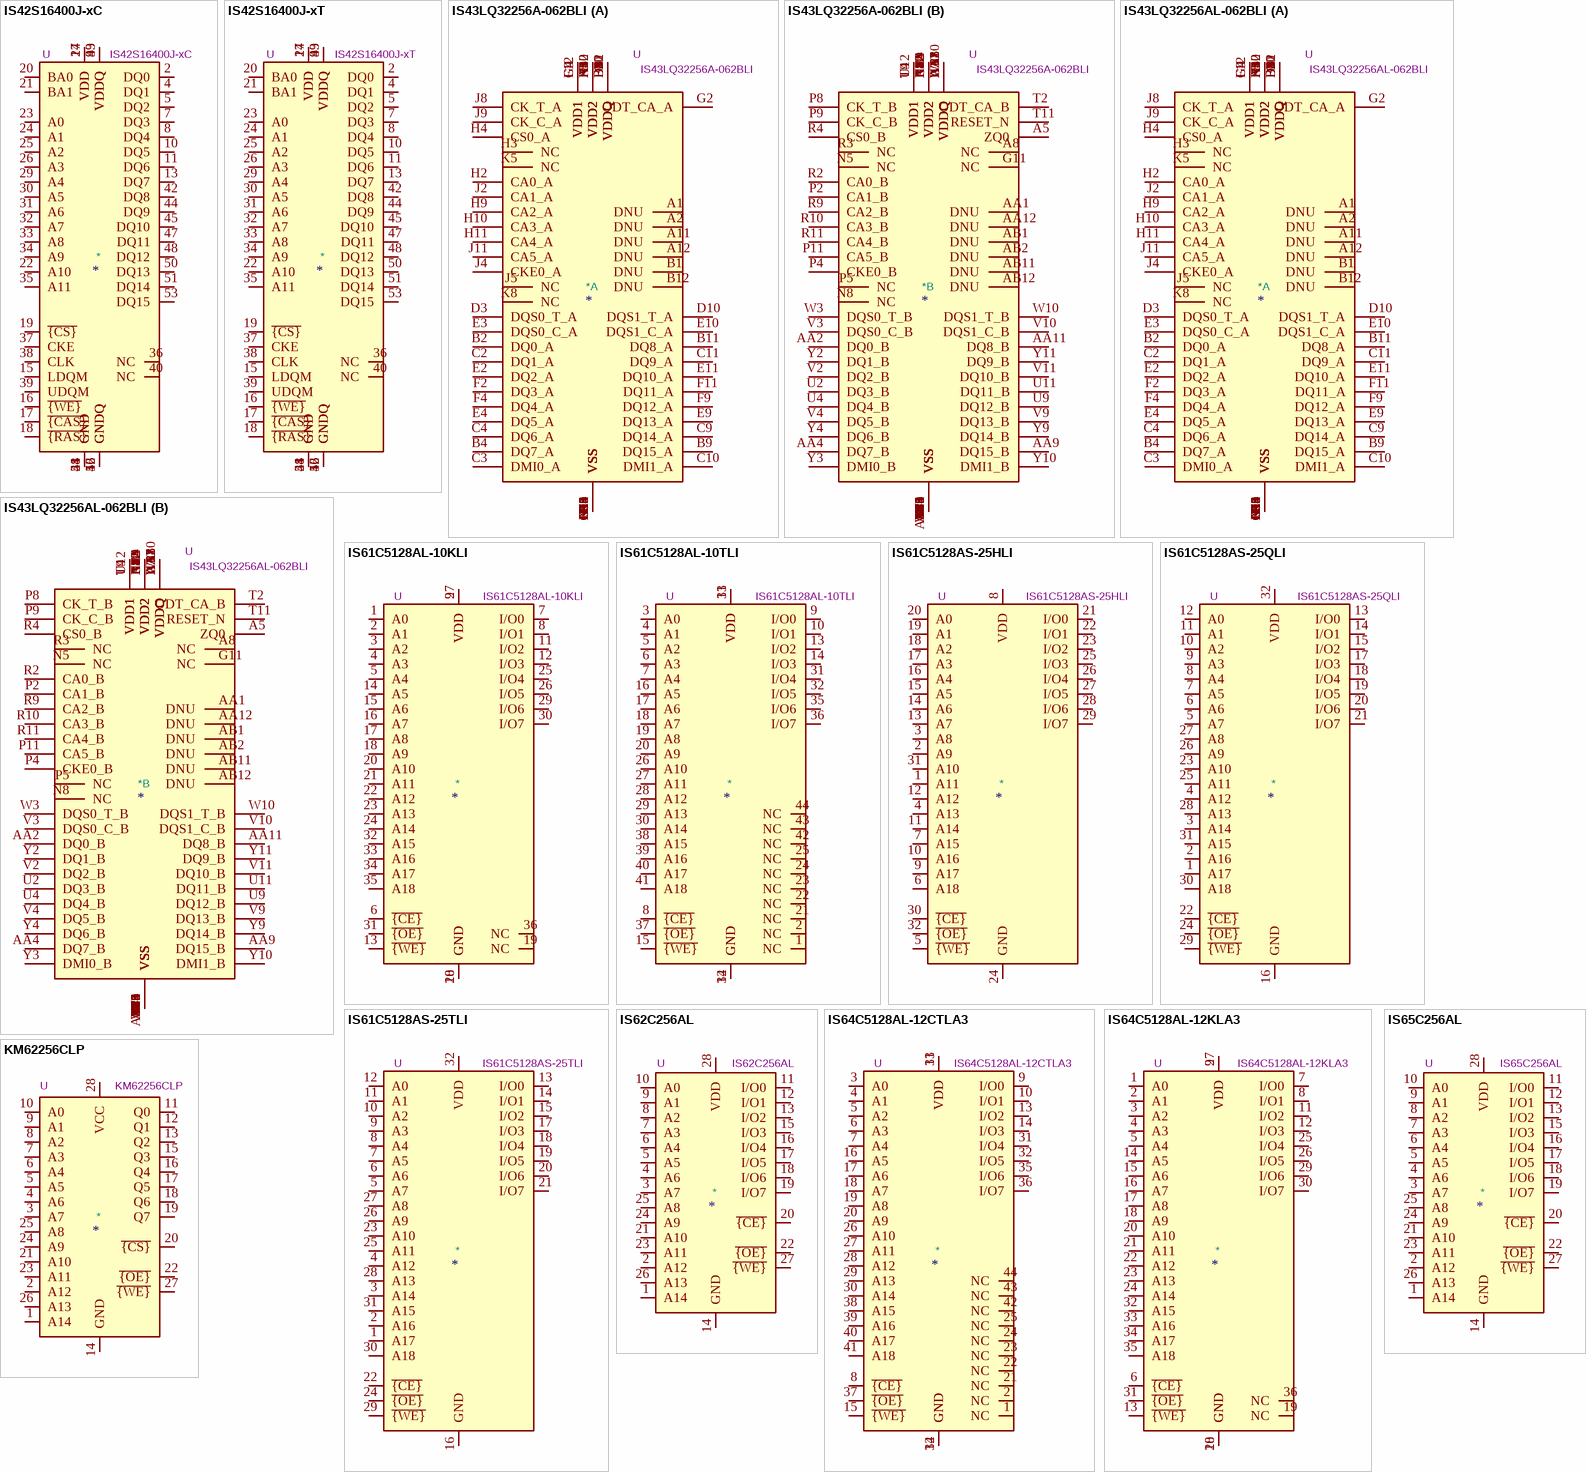
[diagram p3: symbols IS42S16400J-xC to KM62256CLP]

## IS42S16400J-xC
designator *  value IS42S16400J-xC  Reference: U
64Mb Synchronous DRAM, 1 Mb x 16 b x 4 Banks, Cu leadframe plated with matte Sn, TSOP-II-54; ki_keywords: DRAM MEMORY; ki_fp_filters: TSOP?II*22.2x10.16mm*P0.8mm*; Footprint: Package_SO:TSOP-II-54_22.2x10.16mm_P0.8mm; Datasheet: http://www.issi.com/WW/pdf/42-45S16400J.pdf; Description_: 64Mb Synchronous DRAM, 1 Mb x 16 b x 4 Banks, Cu leadframe plated with matte Sn, TSOP-II-54
pins: 1 VDD, 2 DQ0, 3 VDDQ, 4 DQ1, 5 DQ2, 6 GNDQ, 7 DQ3, 8 DQ4, 9 VDDQ, 10 DQ5, 11 DQ6, 12 GNDQ, 13 DQ7, 14 VDD, 15 LDQM, 16 ~{{WE}}, 17 ~{{CAS}}, 18 ~{{RAS}}, 19 ~{{CS}}, 20 BA0, 21 BA1, 22 A10, 23 A0, 24 A1, 25 A2, 26 A3, 27 VDD, 28 GND, 29 A4, 30 A5, 31 A6, 32 A7, 33 A8, 34 A9, 35 A11, 36 NC, 37 CKE, 38 CLK, 39 UDQM, 40 NC, 41 GND, 42 DQ8, 43 VDDQ, 44 DQ9, 45 DQ10, 46 GNDQ, 47 DQ11, 48 DQ12, 49 VDDQ, 50 DQ13, 51 DQ14, 52 GNDQ, 53 DQ15, 54 GND

## IS42S16400J-xT
designator *  value IS42S16400J-xT  Reference: U
64Mb Synchronous DRAM, 1 Mb x 16 b x 4 Banks, Alloy42 leadframe plated with matte Sn, TSOP-II-54; ki_keywords: DRAM MEMORY; ki_fp_filters: TSOP?II*22.2x10.16mm*P0.8mm*; Footprint: Package_SO:TSOP-II-54_22.2x10.16mm_P0.8mm; Datasheet: http://www.issi.com/WW/pdf/42-45S16400J.pdf; Description_: 64Mb Synchronous DRAM, 1 Mb x 16 b x 4 Banks, Alloy42 leadframe plated with matte Sn, TSOP-II-54
pins: 1 VDD, 2 DQ0, 3 VDDQ, 4 DQ1, 5 DQ2, 6 GNDQ, 7 DQ3, 8 DQ4, 9 VDDQ, 10 DQ5, 11 DQ6, 12 GNDQ, 13 DQ7, 14 VDD, 15 LDQM, 16 ~{{WE}}, 17 ~{{CAS}}, 18 ~{{RAS}}, 19 ~{{CS}}, 20 BA0, 21 BA1, 22 A10, 23 A0, 24 A1, 25 A2, 26 A3, 27 VDD, 28 GND, 29 A4, 30 A5, 31 A6, 32 A7, 33 A8, 34 A9, 35 A11, 36 NC, 37 CKE, 38 CLK, 39 UDQM, 40 NC, 41 GND, 42 DQ8, 43 VDDQ, 44 DQ9, 45 DQ10, 46 GNDQ, 47 DQ11, 48 DQ12, 49 VDDQ, 50 DQ13, 51 DQ14, 52 GNDQ, 53 DQ15, 54 GND

## IS43LQ32256A-062BLI
designator *  value IS43LQ32256A-062BLI  Reference: U
256Mx32 bit Low Power Double Data Rate 4 (LPDDR4) SDRAM, 1600 MHz, Industrial, BGA-200; ki_keywords: DRAM MEMORY; ki_fp_filters: BGA*10x14.5mm*Layout12x22*P0.8x0.65mm*; Footprint: Package_BGA:BGA-200_10x14.5mm_Layout12x22_P0.8x0.65mm; Datasheet: http://www.issi.com/WW/pdf/43-46LQ32256A-AL.pdf; Description_: 256Mx32 bit Low Power Double Data Rate 4 (LPDDR4) SDRAM, 1600 MHz, Industrial, BGA-200
part A pins: A1 DNU, A2 DNU, A3 VSS, A4 VDD2, A9 VDD2, A10 VSS, A11 DNU, A12 DNU, B1 DNU, B2 DQ0_A, B3 VDDQ, B4 DQ7_A, B5 VDDQ, B8 VDDQ, B9 DQ15_A, B10 VDDQ, B11 DQ8_A, B12 DNU, C1 VSS, C2 DQ1_A, C3 DMI0_A, C4 DQ6_A, C5 VSS, C8 VSS, C9 DQ14_A, C10 DMI1_A, C11 DQ9_A, C12 VSS, D1 VDDQ, D2 VSS, D3 DQS0_T_A, D4 VSS, D5 VDDQ, D8 VDDQ, D9 VSS, D10 DQS1_T_A, D11 VSS, D12 VDDQ, E1 VSS, E2 DQ2_A, E3 DQS0_C_A, E4 DQ5_A, E5 VSS, E8 VSS, E9 DQ13_A, E10 DQS1_C_A, E11 DQ10_A, E12 VSS, F1 VDD1, F2 DQ3_A, F3 VDDQ, F4 DQ4_A, F5 VDD2, F8 VDD2, F9 DQ12_A, F10 VDDQ, F11 DQ11_A, F12 VDD1, G1 VSS, G2 ODT_CA_A, G3 VSS, G4 VDD1, G5 VSS, G8 VSS, G9 VDD1, G10 VSS, G12 VSS, H1 VDD2, H2 CA0_A, H3 NC, H4 CS0_A, H5 VDD2, H8 VDD2, H9 CA2_A, H10 CA3_A, H11 CA4_A, H12 VDD2, J1 VSS, J2 CA1_A, J3 VSS, J4 CKE0_A, J5 NC, J8 CK_T_A, J9 CK_C_A, J10 VSS, J11 CA5_A, J12 VSS, K1 VDD2, K2 VSS, K3 VDD2, K4 VSS, K5 NC, K8 NC, K9 VSS, K10 VDD2, K11 VSS, K12 VDD2
part B pins: A5 ZQ0, A8 NC, AA1 DNU, AA2 DQ0_B, AA3 VDDQ, AA4 DQ7_B, AA5 VDDQ, AA8 VDDQ, AA9 DQ15_B, AA10 VDDQ, AA11 DQ8_B, AA12 DNU, AB1 DNU, AB2 DNU, AB3 VSS, AB4 VDD2, AB5 VSS, AB8 VSS, AB9 VDD2, AB10 VSS, AB11 DNU, AB12 DNU, G11 NC, N1 VDD2, N2 VSS, N3 VDD2, N4 VSS, N5 NC, N8 NC, N9 VSS, N10 VDD2, N11 VSS, N12 VDD2, P1 VSS, P2 CA1_B, P3 VSS, P4 CKE0_B, P5 NC, P8 CK_T_B, P9 CK_C_B, P10 VSS, P11 CA5_B, P12 VSS, R1 VDD2, R2 CA0_B, R3 NC, R4 CS0_B, R5 VDD2, R8 VDD2, R9 CA2_B, R10 CA3_B, R11 CA4_B, R12 VDD2, T1 VSS, T2 ODT_CA_B, T3 VSS, T4 VDD1, T5 VSS, T8 VSS, T9 VDD1, T10 VSS, T11 RESET_N, T12 VSS, U1 VDD1, U2 DQ3_B, U3 VDDQ, U4 DQ4_B, U5 VDD2, U8 VDD2, U9 DQ12_B, U10 VDDQ, U11 DQ11_B, U12 VDD1, V1 VSS, V2 DQ2_B, V3 DQS0_C_B, V4 DQ5_B, V5 VSS, V8 VSS, V9 DQ13_B, V10 DQS1_C_B, V11 DQ10_B, V12 VSS, W1 VDDQ, W2 VSS, W3 DQS0_T_B, W4 VSS, W5 VDDQ, W8 VDDQ, W9 VSS, W10 DQS1_T_B, W11 VSS, W12 VDDQ, Y1 VSS, Y2 DQ1_B, Y3 DMI0_B, Y4 DQ6_B, Y5 VSS, Y8 VSS, Y9 DQ14_B, Y10 DMI1_B, Y11 DQ9_B, Y12 VSS

## IS43LQ32256AL-062BLI
designator *  value IS43LQ32256AL-062BLI  Reference: U
256Mx32 bit Low Power Double Data Rate 4X (LPDDR4X) SDRAM, 1600 MHz, Industrial, BGA-200; ki_keywords: DRAM MEMORY; ki_fp_filters: BGA*10x14.5mm*Layout12x22*P0.8x0.65mm*; Footprint: Package_BGA:BGA-200_10x14.5mm_Layout12x22_P0.8x0.65mm; Datasheet: http://www.issi.com/WW/pdf/43-46LQ32256AL-AL.pdf; Description_: 256Mx32 bit Low Power Double Data Rate 4X (LPDDR4X) SDRAM, 1600 MHz, Industrial, BGA-200
part A pins: A1 DNU, A2 DNU, A3 VSS, A4 VDD2, A9 VDD2, A10 VSS, A11 DNU, A12 DNU, B1 DNU, B2 DQ0_A, B3 VDDQ, B4 DQ7_A, B5 VDDQ, B8 VDDQ, B9 DQ15_A, B10 VDDQ, B11 DQ8_A, B12 DNU, C1 VSS, C2 DQ1_A, C3 DMI0_A, C4 DQ6_A, C5 VSS, C8 VSS, C9 DQ14_A, C10 DMI1_A, C11 DQ9_A, C12 VSS, D1 VDDQ, D2 VSS, D3 DQS0_T_A, D4 VSS, D5 VDDQ, D8 VDDQ, D9 VSS, D10 DQS1_T_A, D11 VSS, D12 VDDQ, E1 VSS, E2 DQ2_A, E3 DQS0_C_A, E4 DQ5_A, E5 VSS, E8 VSS, E9 DQ13_A, E10 DQS1_C_A, E11 DQ10_A, E12 VSS, F1 VDD1, F2 DQ3_A, F3 VDDQ, F4 DQ4_A, F5 VDD2, F8 VDD2, F9 DQ12_A, F10 VDDQ, F11 DQ11_A, F12 VDD1, G1 VSS, G2 ODT_CA_A, G3 VSS, G4 VDD1, G5 VSS, G8 VSS, G9 VDD1, G10 VSS, G12 VSS, H1 VDD2, H2 CA0_A, H3 NC, H4 CS0_A, H5 VDD2, H8 VDD2, H9 CA2_A, H10 CA3_A, H11 CA4_A, H12 VDD2, J1 VSS, J2 CA1_A, J3 VSS, J4 CKE0_A, J5 NC, J8 CK_T_A, J9 CK_C_A, J10 VSS, J11 CA5_A, J12 VSS, K1 VDD2, K2 VSS, K3 VDD2, K4 VSS, K5 NC, K8 NC, K9 VSS, K10 VDD2, K11 VSS, K12 VDD2
part B pins: A5 ZQ0, A8 NC, AA1 DNU, AA2 DQ0_B, AA3 VDDQ, AA4 DQ7_B, AA5 VDDQ, AA8 VDDQ, AA9 DQ15_B, AA10 VDDQ, AA11 DQ8_B, AA12 DNU, AB1 DNU, AB2 DNU, AB3 VSS, AB4 VDD2, AB5 VSS, AB8 VSS, AB9 VDD2, AB10 VSS, AB11 DNU, AB12 DNU, G11 NC, N1 VDD2, N2 VSS, N3 VDD2, N4 VSS, N5 NC, N8 NC, N9 VSS, N10 VDD2, N11 VSS, N12 VDD2, P1 VSS, P2 CA1_B, P3 VSS, P4 CKE0_B, P5 NC, P8 CK_T_B, P9 CK_C_B, P10 VSS, P11 CA5_B, P12 VSS, R1 VDD2, R2 CA0_B, R3 NC, R4 CS0_B, R5 VDD2, R8 VDD2, R9 CA2_B, R10 CA3_B, R11 CA4_B, R12 VDD2, T1 VSS, T2 ODT_CA_B, T3 VSS, T4 VDD1, T5 VSS, T8 VSS, T9 VDD1, T10 VSS, T11 RESET_N, T12 VSS, U1 VDD1, U2 DQ3_B, U3 VDDQ, U4 DQ4_B, U5 VDD2, U8 VDD2, U9 DQ12_B, U10 VDDQ, U11 DQ11_B, U12 VDD1, V1 VSS, V2 DQ2_B, V3 DQS0_C_B, V4 DQ5_B, V5 VSS, V8 VSS, V9 DQ13_B, V10 DQS1_C_B, V11 DQ10_B, V12 VSS, W1 VDDQ, W2 VSS, W3 DQS0_T_B, W4 VSS, W5 VDDQ, W8 VDDQ, W9 VSS, W10 DQS1_T_B, W11 VSS, W12 VDDQ, Y1 VSS, Y2 DQ1_B, Y3 DMI0_B, Y4 DQ6_B, Y5 VSS, Y8 VSS, Y9 DQ14_B, Y10 DMI1_B, Y11 DQ9_B, Y12 VSS

## IS61C5128AL-10KLI
designator *  value IS61C5128AL-10KLI  Reference: U
512K x 8 HIGH-SPEED CMOS STATIC RAM, 10ns, SOJ-36; ki_keywords: SRAM MEMORY; ki_fp_filters: SOJ*10.16*23.*P1.27mm*; Footprint: Package_SO:SOJ-36_10.16x23.495mm_P1.27mm; Datasheet: http://www.issi.com/WW/pdf/61-64C5128AL.pdf; Description_: 512K x 8 HIGH-SPEED CMOS STATIC RAM, 10ns, SOJ-36
pins: 1 A0, 2 A1, 3 A2, 4 A3, 5 A4, 6 ~{{CE}}, 7 I/O0, 8 I/O1, 9 VDD, 10 GND, 11 I/O2, 12 I/O3, 13 ~{{WE}}, 14 A5, 15 A6, 16 A7, 17 A8, 18 A9, 19 NC, 20 A10, 21 A11, 22 A12, 23 A13, 24 A14, 25 I/O4, 26 I/O5, 27 VDD, 28 GND, 29 I/O6, 30 I/O7, 31 ~{{OE}}, 32 A15, 33 A16, 34 A17, 35 A18, 36 NC

## IS61C5128AL-10TLI
designator *  value IS61C5128AL-10TLI  Reference: U
512K x 8 HIGH-SPEED CMOS STATIC RAM, 10ns, TSOP II-44; ki_keywords: SRAM MEMORY; ki_fp_filters: TSOP*10.16*18.*P0.8mm*; Footprint: Package_SO:TSOP-II-44_10.16x18.41mm_P0.8mm; Datasheet: http://www.issi.com/WW/pdf/61-64C5128AL.pdf; Description_: 512K x 8 HIGH-SPEED CMOS STATIC RAM, 10ns, TSOP II-44
pins: 1 NC, 2 NC, 3 A0, 4 A1, 5 A2, 6 A3, 7 A4, 8 ~{{CE}}, 9 I/O0, 10 I/O1, 11 VDD, 12 GND, 13 I/O2, 14 I/O3, 15 ~{{WE}}, 16 A5, 17 A6, 18 A7, 19 A8, 20 A9, 21 NC, 22 NC, 23 NC, 24 NC, 25 NC, 26 A10, 27 A11, 28 A12, 29 A13, 30 A14, 31 I/O4, 32 I/O5, 33 VDD, 34 GND, 35 I/O6, 36 I/O7, 37 ~{{OE}}, 38 A15, 39 A16, 40 A17, 41 A18, 42 NC, 43 NC, 44 NC

## IS61C5128AS-25HLI
designator *  value IS61C5128AS-25HLI  Reference: U
512K x 8 HIGH-SPEED CMOS STATIC RAM, 25ns, sTSOP I-32; ki_keywords: SRAM MEMORY; ki_fp_filters: TSOP*11.8*8*P0.5mm*; Footprint: Package_SO:TSOP-I-32_11.8x8mm_P0.5mm; Datasheet: http://www.issi.com/WW/pdf/61-64C5128AL.pdf; Description_: 512K x 8 HIGH-SPEED CMOS STATIC RAM, 25ns, sTSOP I-32
pins: 1 A11, 2 A9, 3 A8, 4 A13, 5 ~{{WE}}, 6 A18, 7 A15, 8 VDD, 9 A17, 10 A16, 11 A14, 12 A12, 13 A7, 14 A6, 15 A5, 16 A4, 17 A3, 18 A2, 19 A1, 20 A0, 21 I/O0, 22 I/O1, 23 I/O2, 24 GND, 25 I/O3, 26 I/O4, 27 I/O5, 28 I/O6, 29 I/O7, 30 ~{{CE}}, 31 A10, 32 ~{{OE}}

## IS61C5128AS-25QLI
designator *  value IS61C5128AS-25QLI  Reference: U
512K x 8 HIGH-SPEED CMOS STATIC RAM, 25ns, SOP-32; ki_keywords: SRAM MEMORY; ki_fp_filters: SOP*11.3*20.*P1.27mm*; Footprint: Package_SO:SOP-32_11.305x20.495mm_P1.27mm; Datasheet: http://www.issi.com/WW/pdf/61-64C5128AL.pdf; Description_: 512K x 8 HIGH-SPEED CMOS STATIC RAM, 25ns, SOP-32
pins: 1 A17, 2 A16, 3 A14, 4 A12, 5 A7, 6 A6, 7 A5, 8 A4, 9 A3, 10 A2, 11 A1, 12 A0, 13 I/O0, 14 I/O1, 15 I/O2, 16 GND, 17 I/O3, 18 I/O4, 19 I/O5, 20 I/O6, 21 I/O7, 22 ~{{CE}}, 23 A10, 24 ~{{OE}}, 25 A11, 26 A9, 27 A8, 28 A13, 29 ~{{WE}}, 30 A18, 31 A15, 32 VDD